# Altium integrated library Xilinx XC3000.IntLib: 584 symbols (part 2 of 27)
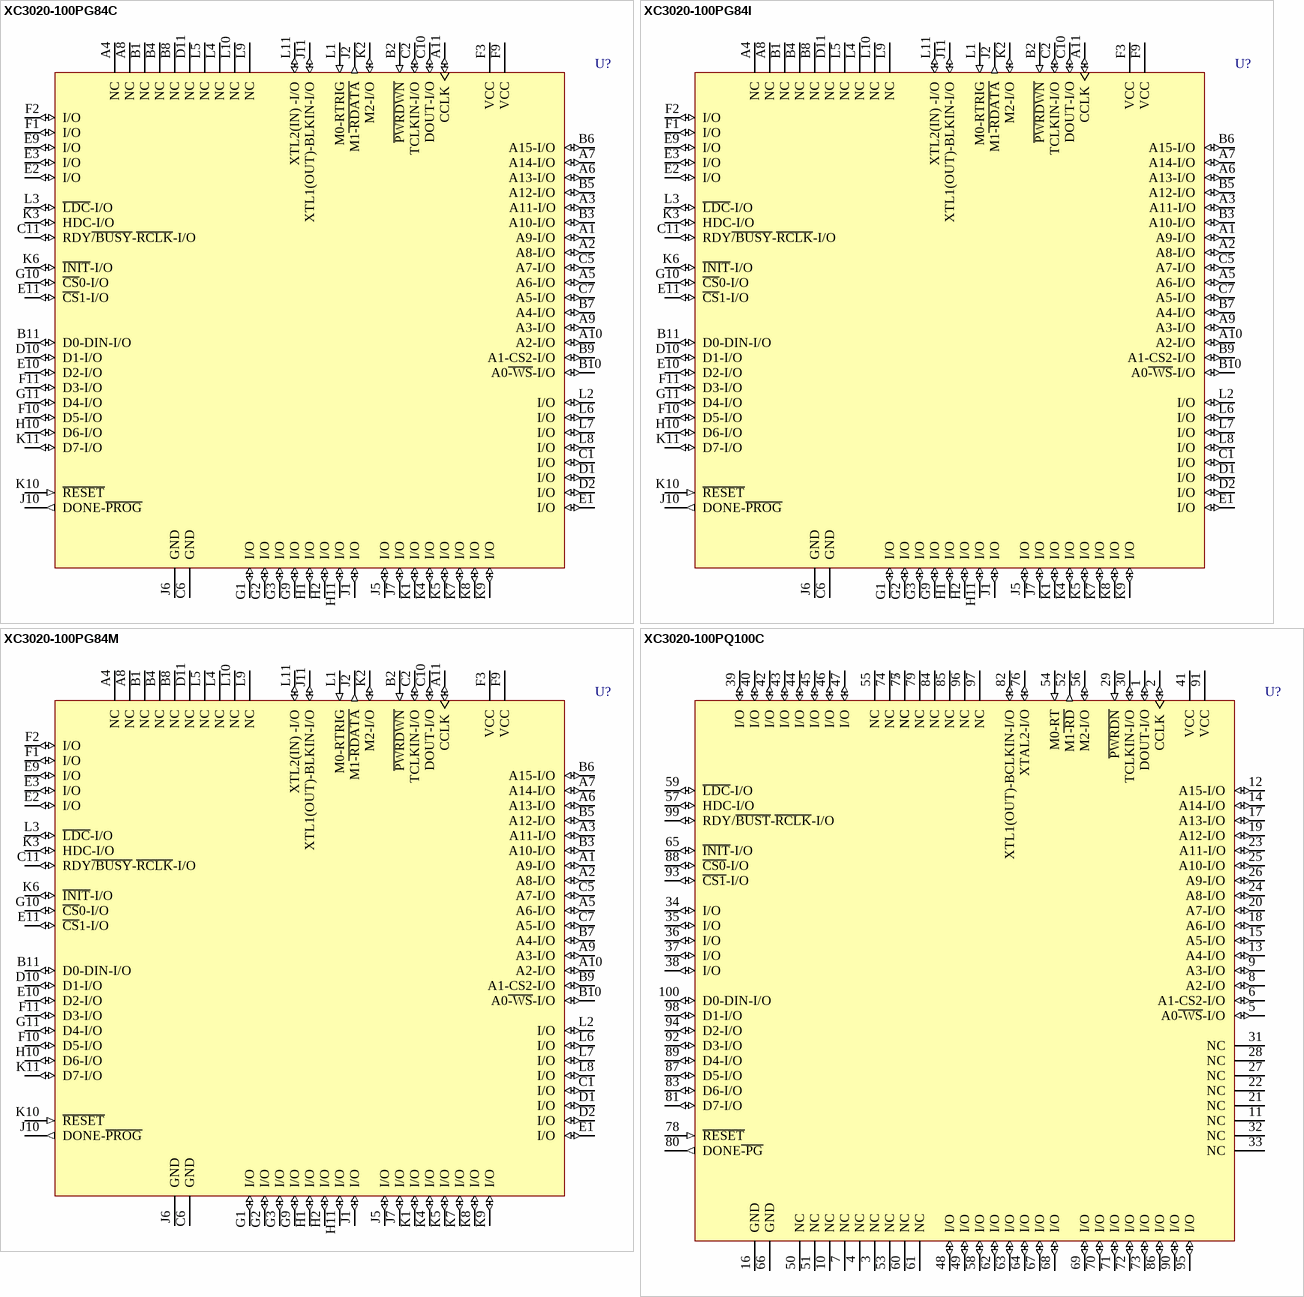
[diagram p318: symbols XC3020-100PG84C to XC3020-100PQ100C]

## XC3020-100PG84I
designator U?
Logic Cell Array with 64 CLBs, with 64 I/O Pins, 84-Pin PGA, Industrial Grade; PackageDocument: ver1.1, Apr-2001; Published: 8-Jun-2000; LatestRevisionDate: 17-Jul-2002; LatestRevisionNote: Re-released for DXP Platform.; DatasheetDocument: 1994; PackageReference: PG84; Publisher: Altium Limited; Code_JEDEC: MO-066-AC
footprint PG84 (84-Pin Ceramic Pin-Grid Array (PG84))
pins: A1 A9-I/O (io), A2 A8-I/O (io), A3 A11-I/O (io), A4 NC, A5 A6-I/O (io), A6 A13-I/O (io), A7 A14-I/O (io), A8 NC, A9 A3-I/O (io), A10 A2-I/O (io), A11 CCLK (io), B1 NC, B2 ~{PWRDWN} (in), B3 A10-I/O (io), B4 NC, B5 A12-I/O (io), B6 A15-I/O (io), B7 A4-I/O (io), B8 NC, B9 A1-CS2-I/O (io), B10 A0~{-WS}-I/O (io), B11 D0-DIN-I/O (io), C1 I/O (io), C2 TCLKIN-I/O (io), C5 A7-I/O (io), C6 GND (power), C7 A5-I/O (io), C10 DOUT-I/O (io), C11 RDY~{/BUSY}-~{RCLK}-I/O (io), D1 I/O (io), D2 I/O (io), D10 D1-I/O (io), D11 NC, E1 I/O (io), E2 I/O (io), E3 I/O (io), E9 I/O (io), E10 D2-I/O (io), E11 ~{CS}1-I/O (io), F1 I/O (io), F2 I/O (io), F3 VCC (power), F9 VCC (power), F10 D5-I/O (io), F11 D3-I/O (io), G1 I/O (io), G2 I/O (io), G3 I/O (io), G9 I/O (io), G10 ~{CS}0-I/O (io), G11 D4-I/O (io), H1 I/O (io), H2 I/O (io), H10 D6-I/O (io), H11 I/O (io), J1 I/O (io), J2 M1~{-RDATA} (out), J5 I/O (io), J6 GND (power), J7 I/O (io), J10 DONE-~{PROG} (out), J11 XTL1(OUT)-BLKIN-I/O (io), K1 I/O (io), K2 M2-I/O (io), K3 HDC-I/O (io), K4 I/O (io), K5 I/O (io), K6 ~{INIT}-I/O (io), K7 I/O (io), K8 I/O (io), K9 I/O (io), K10 ~{RESET} (in), K11 D7-I/O (io), L1 M0-RTRIG (in), L2 I/O (io), L3 ~{LDC}-I/O (io), L4 NC, L5 NC, L6 I/O (io), L7 I/O (io), L8 I/O (io), L9 NC, L10 NC, L11 XTL2(IN) -I/O (io)

## XC3020-100PG84M
designator U?
Logic Cell Array with 64 CLBs, with 64 I/O Pins, 84-Pin PGA, Military Grade; PackageDocument: ver1.1, Apr-2001; Published: 8-Jun-2000; LatestRevisionDate: 17-Jul-2002; LatestRevisionNote: Re-released for DXP Platform.; DatasheetDocument: 1994; PackageReference: PG84; Publisher: Altium Limited; Code_JEDEC: MO-066-AC
footprint PG84 (84-Pin Ceramic Pin-Grid Array (PG84))
pins: A1 A9-I/O (io), A2 A8-I/O (io), A3 A11-I/O (io), A4 NC, A5 A6-I/O (io), A6 A13-I/O (io), A7 A14-I/O (io), A8 NC, A9 A3-I/O (io), A10 A2-I/O (io), A11 CCLK (io), B1 NC, B2 ~{PWRDWN} (in), B3 A10-I/O (io), B4 NC, B5 A12-I/O (io), B6 A15-I/O (io), B7 A4-I/O (io), B8 NC, B9 A1-CS2-I/O (io), B10 A0~{-WS}-I/O (io), B11 D0-DIN-I/O (io), C1 I/O (io), C2 TCLKIN-I/O (io), C5 A7-I/O (io), C6 GND (power), C7 A5-I/O (io), C10 DOUT-I/O (io), C11 RDY~{/BUSY}-~{RCLK}-I/O (io), D1 I/O (io), D2 I/O (io), D10 D1-I/O (io), D11 NC, E1 I/O (io), E2 I/O (io), E3 I/O (io), E9 I/O (io), E10 D2-I/O (io), E11 ~{CS}1-I/O (io), F1 I/O (io), F2 I/O (io), F3 VCC (power), F9 VCC (power), F10 D5-I/O (io), F11 D3-I/O (io), G1 I/O (io), G2 I/O (io), G3 I/O (io), G9 I/O (io), G10 ~{CS}0-I/O (io), G11 D4-I/O (io), H1 I/O (io), H2 I/O (io), H10 D6-I/O (io), H11 I/O (io), J1 I/O (io), J2 M1~{-RDATA} (out), J5 I/O (io), J6 GND (power), J7 I/O (io), J10 DONE-~{PROG} (out), J11 XTL1(OUT)-BLKIN-I/O (io), K1 I/O (io), K2 M2-I/O (io), K3 HDC-I/O (io), K4 I/O (io), K5 I/O (io), K6 ~{INIT}-I/O (io), K7 I/O (io), K8 I/O (io), K9 I/O (io), K10 ~{RESET} (in), K11 D7-I/O (io), L1 M0-RTRIG (in), L2 I/O (io), L3 ~{LDC}-I/O (io), L4 NC, L5 NC, L6 I/O (io), L7 I/O (io), L8 I/O (io), L9 NC, L10 NC, L11 XTL2(IN) -I/O (io)

## XC3020-100PQ100C
designator U?
Logic Cell Array with 64 CLBs, with 64 I/O Pins, 100-Pin PQFP, Commercial Grade; PackageDocument: ver1.2, Oct-2002; Published: 8-Jun-2000; LatestRevisionDate: 17-Sep-2003; LatestRevisionNote: PCB Footprint dimensions updated; DatasheetDocument: 1994; PackageReference: PQ100; Publisher: Altium Limited; Code_IPC: QFP-14X20-100
footprint PQ100 (100-Pin Plastic Quad Flat Pack (PQ100))
pins: 1 DOUT-I/O (io), 2 CCLK (io), 3 NC, 4 NC, 5 A0~{-WS}-I/O (io), 6 A1-CS2-I/O (io), 7 NC, 8 A2-I/O (io), 9 A3-I/O (io), 10 NC, 11 NC, 12 A15-I/O (io), 13 A4-I/O (io), 14 A14-I/O (io), 15 A5-I/O (io), 16 GND (power), 17 A13-I/O (io), 18 A6-I/O (io), 19 A12-I/O (io), 20 A7-I/O (io), 21 NC, 22 NC, 23 A11-I/O (io), 24 A8-I/O (io), 25 A10-I/O (io), 26 A9-I/O (io), 27 NC, 28 NC, 29 ~{PWRDN} (in), 30 TCLKIN-I/O (io), 31 NC, 32 NC, 33 NC, 34 I/O (io), 35 I/O (io), 36 I/O (io), 37 I/O (io), 38 I/O (io), 39 I/O (io), 40 I/O (io), 41 VCC (power), 42 I/O (io), 43 I/O (io), 44 I/O (io), 45 I/O (io), 46 I/O (io), 47 I/O (io), 48 I/O (io), 49 I/O (io), 50 NC, 51 NC, 52 M1~{-RD} (out), 53 NC, 54 M0-RT (in), 55 NC, 56 M2-I/O (io), 57 HDC-I/O (io), 58 I/O (io), 59 ~{LDC}-I/O (io), 60 NC, 61 NC, 62 I/O (io), 63 I/O (io), 64 I/O (io), 65 ~{INIT}-I/O (io), 66 GND (power), 67 I/O (io), 68 I/O (io), 69 I/O (io), 70 I/O (io), 71 I/O (io), 72 I/O (io), 73 I/O (io), 74 NC, 75 NC, 76 XTAL2-I/O (io), 77 NC, 78 ~{RESET} (in), 79 NC, 80 DONE~{-PG} (out), 81 D7-I/O (io), 82 XTL1(OUT)-BCLKIN-I/O (io), 83 D6-I/O (io), 84 NC, 85 NC, 86 I/O (io), 87 D5-I/O (io), 88 ~{CS0}-I/O (io), 89 D4-I/O (io), 90 I/O (io), 91 VCC (power), 92 D3-I/O (io), 93 ~{CS1}-I/O (io), 94 D2-I/O (io), 95 I/O (io), 96 NC, 97 NC, 98 D1-I/O (io), 99 RDY/~{BUST}-~{RCLK}-I/O (io), 100 D0-DIN-I/O (io)

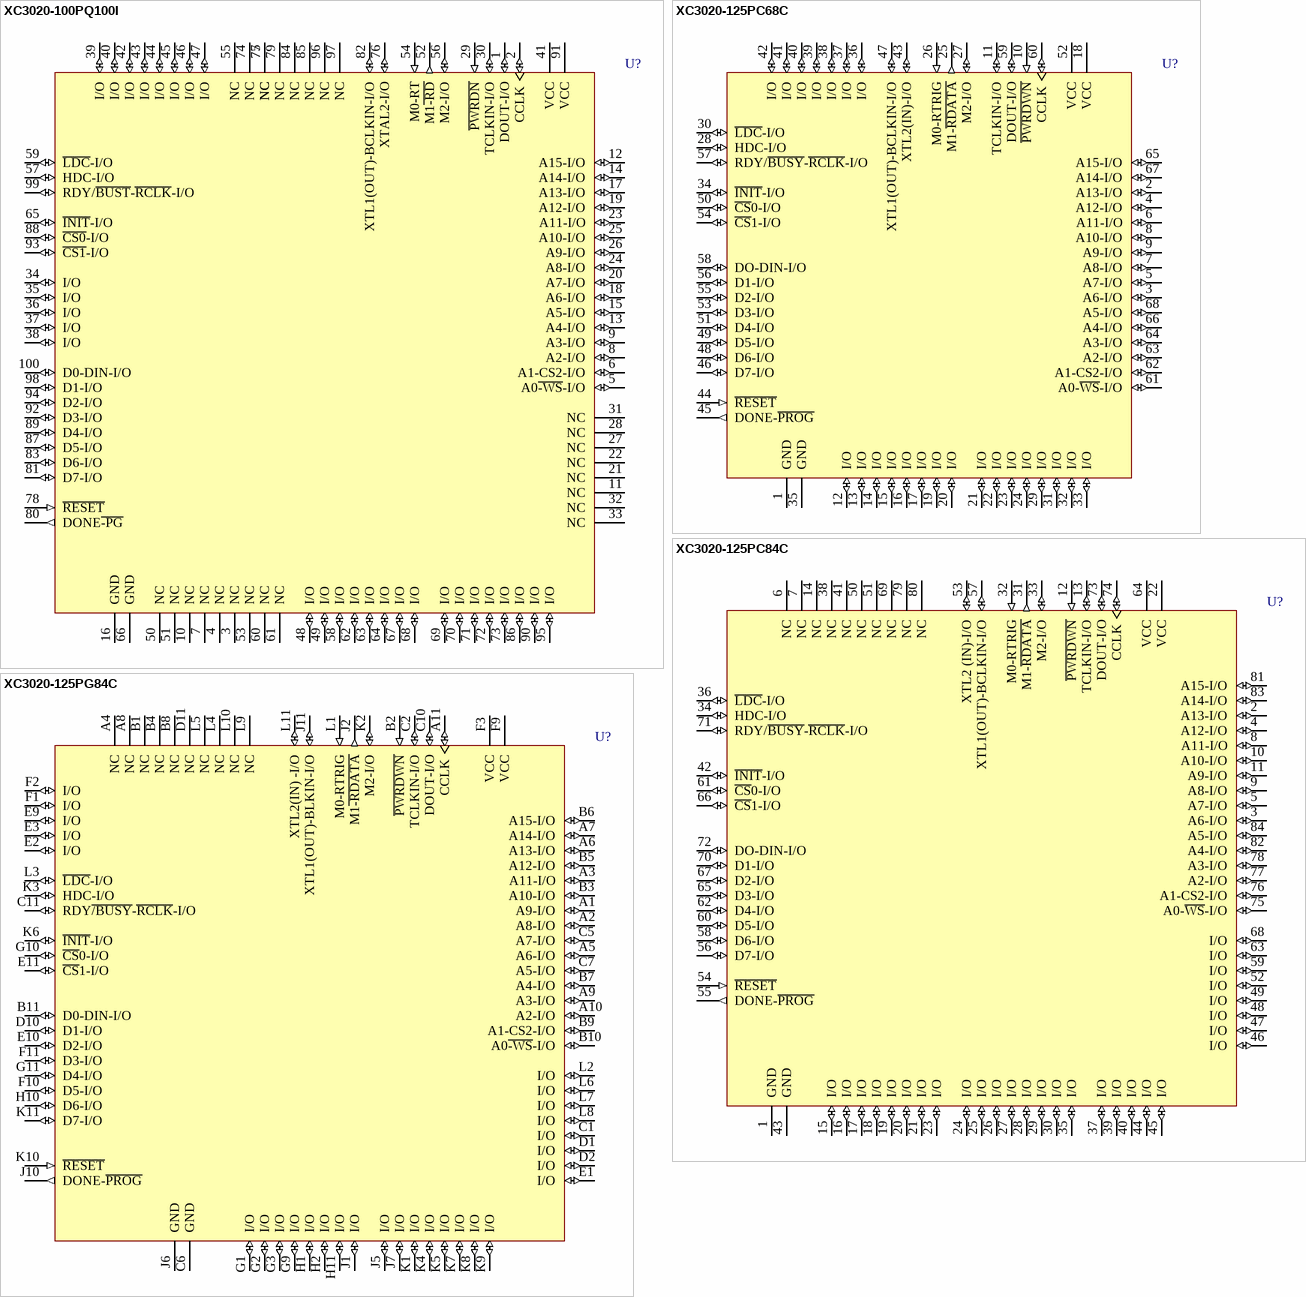
[diagram p8: symbols XC3020-100PQ100I to XC3020-125PG84C]

## XC3020-100PQ100I
designator U?
Logic Cell Array with 64 CLBs, with 64 I/O Pins, 100-Pin PQFP, Industrial Grade; PackageDocument: ver1.2, Oct-2002; Published: 8-Jun-2000; LatestRevisionDate: 17-Sep-2003; LatestRevisionNote: PCB Footprint dimensions updated; DatasheetDocument: 1994; PackageReference: PQ100; Publisher: Altium Limited; Code_IPC: QFP-14X20-100
footprint PQ100 (100-Pin Plastic Quad Flat Pack (PQ100))
pins: 1 DOUT-I/O (io), 2 CCLK (io), 3 NC, 4 NC, 5 A0~{-WS}-I/O (io), 6 A1-CS2-I/O (io), 7 NC, 8 A2-I/O (io), 9 A3-I/O (io), 10 NC, 11 NC, 12 A15-I/O (io), 13 A4-I/O (io), 14 A14-I/O (io), 15 A5-I/O (io), 16 GND (power), 17 A13-I/O (io), 18 A6-I/O (io), 19 A12-I/O (io), 20 A7-I/O (io), 21 NC, 22 NC, 23 A11-I/O (io), 24 A8-I/O (io), 25 A10-I/O (io), 26 A9-I/O (io), 27 NC, 28 NC, 29 ~{PWRDN} (in), 30 TCLKIN-I/O (io), 31 NC, 32 NC, 33 NC, 34 I/O (io), 35 I/O (io), 36 I/O (io), 37 I/O (io), 38 I/O (io), 39 I/O (io), 40 I/O (io), 41 VCC (power), 42 I/O (io), 43 I/O (io), 44 I/O (io), 45 I/O (io), 46 I/O (io), 47 I/O (io), 48 I/O (io), 49 I/O (io), 50 NC, 51 NC, 52 M1~{-RD} (out), 53 NC, 54 M0-RT (in), 55 NC, 56 M2-I/O (io), 57 HDC-I/O (io), 58 I/O (io), 59 ~{LDC}-I/O (io), 60 NC, 61 NC, 62 I/O (io), 63 I/O (io), 64 I/O (io), 65 ~{INIT}-I/O (io), 66 GND (power), 67 I/O (io), 68 I/O (io), 69 I/O (io), 70 I/O (io), 71 I/O (io), 72 I/O (io), 73 I/O (io), 74 NC, 75 NC, 76 XTAL2-I/O (io), 77 NC, 78 ~{RESET} (in), 79 NC, 80 DONE~{-PG} (out), 81 D7-I/O (io), 82 XTL1(OUT)-BCLKIN-I/O (io), 83 D6-I/O (io), 84 NC, 85 NC, 86 I/O (io), 87 D5-I/O (io), 88 ~{CS0}-I/O (io), 89 D4-I/O (io), 90 I/O (io), 91 VCC (power), 92 D3-I/O (io), 93 ~{CS1}-I/O (io), 94 D2-I/O (io), 95 I/O (io), 96 NC, 97 NC, 98 D1-I/O (io), 99 RDY/~{BUST}-~{RCLK}-I/O (io), 100 D0-DIN-I/O (io)

## XC3020-125PC68C
designator U?
Logic Cell Array with 64 CLBs, with 58 I/O Pins, 68-Pin PLCC, Commercial Grade; PackageDocument: ver1.0, Jun-2000; Published: 8-Jun-2000; LatestRevisionDate: 17-Sep-2003; LatestRevisionNote: PCB Footprint dimensions updated; DatasheetDocument: 1994; PackageReference: PC68; Publisher: Altium Limited; Code_JEDEC: MO-047; Code_IPC: PLCC-68
footprint PC68 (68-Pin Plastic Leaded Chip Carrier (PC68))
pins: 1 GND (power), 2 A13-I/O (io), 3 A6-I/O (io), 4 A12-I/O (io), 5 A7-I/O (io), 6 A11-I/O (io), 7 A8-I/O (io), 8 A10-I/O (io), 9 A9-I/O (io), 10 ~{PWRDWN} (in), 11 TCLKIN-I/O (io), 12 I/O (io), 13 I/O (io), 14 I/O (io), 15 I/O (io), 16 I/O (io), 17 I/O (io), 18 VCC (power), 19 I/O (io), 20 I/O (io), 21 I/O (io), 22 I/O (io), 23 I/O (io), 24 I/O (io), 25 M1-~{RDATA} (out), 26 M0-RTRIG (in), 27 M2-I/O (io), 28 HDC-I/O (io), 29 I/O (io), 30 ~{LDC}-I/O (io), 31 I/O (io), 32 I/O (io), 33 I/O (io), 34 ~{INIT}-I/O (io), 35 GND (power), 36 I/O (io), 37 I/O (io), 38 I/O (io), 39 I/O (io), 40 I/O (io), 41 I/O (io), 42 I/O (io), 43 XTL2(IN)-I/O (io), 44 ~{RESET} (in), 45 DONE-~{PROG} (out), 46 D7-I/O (io), 47 XTL1(OUT)-BCLKIN-I/O (io), 48 D6-I/O (io), 49 D5-I/O (io), 50 ~{CS}0-I/O (io), 51 D4-I/O (io), 52 VCC (power), 53 D3-I/O (io), 54 ~{CS}1-I/O (io), 55 D2-I/O (io), 56 D1-I/O (io), 57 RDY/~{BUSY}-~{RCLK}-I/O (io), 58 DO-DIN-I/O (io), 59 DOUT-I/O (io), 60 CCLK (io), 61 A0-~{WS}-I/O (io), 62 A1-CS2-I/O (io), 63 A2-I/O (io), 64 A3-I/O (io), 65 A15-I/O (io), 66 A4-I/O (io), 67 A14-I/O (io), 68 A5-I/O (io)

## XC3020-125PC84C
designator U?
Logic Cell Array with 64 CLBs, with 64 I/O Pins, 84-Pin PLCC, Commercial Grade; PackageDocument: ver1.0, Jun-2000; Published: 8-Jun-2000; LatestRevisionDate: 17-Sep-2003; LatestRevisionNote: PCB Footprint dimensions updated; DatasheetDocument: 1994; PackageReference: PC84; Publisher: Altium Limited; Code_JEDEC: MS-047; Code_IPC: PLCC-84
footprint PC84 (84-Pin Plastic Leaded Chip Carrier (PC84))
pins: 1 GND (power), 2 A13-I/O (io), 3 A6-I/O (io), 4 A12-I/O (io), 5 A7-I/O (io), 6 NC, 7 NC, 8 A11-I/O (io), 9 A8-I/O (io), 10 A10-I/O (io), 11 A9-I/O (io), 12 ~{PWRDWN} (in), 13 TCLKIN-I/O (io), 14 NC, 15 I/O (io), 16 I/O (io), 17 I/O (io), 18 I/O (io), 19 I/O (io), 20 I/O (io), 21 I/O (io), 22 VCC (power), 23 I/O (io), 24 I/O (io), 25 I/O (io), 26 I/O (io), 27 I/O (io), 28 I/O (io), 29 I/O (io), 30 I/O (io), 31 M1-~{RDATA} (out), 32 M0-RTRIG (in), 33 M2-I/O (io), 34 HDC-I/O (io), 35 I/O (io), 36 ~{LDC}-I/O (io), 37 I/O (io), 38 NC, 39 I/O (io), 40 I/O (io), 41 NC, 42 ~{INIT}-I/O (io), 43 GND (power), 44 I/O (io), 45 I/O (io), 46 I/O (io), 47 I/O (io), 48 I/O (io), 49 I/O (io), 50 NC, 51 NC, 52 I/O (io), 53 XTL2 (IN)-I/O (io), 54 ~{RESET} (in), 55 DONE-~{PROG} (out), 56 D7-I/O (io), 57 XTL1(OUT)-BCLKIN-I/O (io), 58 D6-I/O (io), 59 I/O (io), 60 D5-I/O (io), 61 ~{CS}0-I/O (io), 62 D4-I/O (io), 63 I/O (io), 64 VCC (power), 65 D3-I/O (io), 66 ~{CS}1-I/O (io), 67 D2-I/O (io), 68 I/O (io), 69 NC, 70 D1-I/O (io), 71 RDY/~{BUSY}-~{RCLK}-I/O (io), 72 DO-DIN-I/O (io), 73 DOUT-I/O (io), 74 CCLK (io), 75 A0-~{WS}-I/O (io), 76 A1-CS2-I/O (io), 77 A2-I/O (io), 78 A3-I/O (io), 79 NC, 80 NC, 81 A15-I/O (io), 82 A4-I/O (io), 83 A14-I/O (io), 84 A5-I/O (io)

## XC3020-125PG84C
designator U?
Logic Cell Array with 64 CLBs, with 64 I/O Pins, 84-Pin PGA, Commercial Grade; PackageDocument: ver1.1, Apr-2001; Published: 8-Jun-2000; LatestRevisionDate: 17-Jul-2002; LatestRevisionNote: Re-released for DXP Platform.; DatasheetDocument: 1994; PackageReference: PG84; Publisher: Altium Limited; Code_JEDEC: MO-066-AC
footprint PG84 (84-Pin Ceramic Pin-Grid Array (PG84))
pins: A1 A9-I/O (io), A2 A8-I/O (io), A3 A11-I/O (io), A4 NC, A5 A6-I/O (io), A6 A13-I/O (io), A7 A14-I/O (io), A8 NC, A9 A3-I/O (io), A10 A2-I/O (io), A11 CCLK (io), B1 NC, B2 ~{PWRDWN} (in), B3 A10-I/O (io), B4 NC, B5 A12-I/O (io), B6 A15-I/O (io), B7 A4-I/O (io), B8 NC, B9 A1-CS2-I/O (io), B10 A0~{-WS}-I/O (io), B11 D0-DIN-I/O (io), C1 I/O (io), C2 TCLKIN-I/O (io), C5 A7-I/O (io), C6 GND (power), C7 A5-I/O (io), C10 DOUT-I/O (io), C11 RDY~{/BUSY}-~{RCLK}-I/O (io), D1 I/O (io), D2 I/O (io), D10 D1-I/O (io), D11 NC, E1 I/O (io), E2 I/O (io), E3 I/O (io), E9 I/O (io), E10 D2-I/O (io), E11 ~{CS}1-I/O (io), F1 I/O (io), F2 I/O (io), F3 VCC (power), F9 VCC (power), F10 D5-I/O (io), F11 D3-I/O (io), G1 I/O (io), G2 I/O (io), G3 I/O (io), G9 I/O (io), G10 ~{CS}0-I/O (io), G11 D4-I/O (io), H1 I/O (io), H2 I/O (io), H10 D6-I/O (io), H11 I/O (io), J1 I/O (io), J2 M1~{-RDATA} (out), J5 I/O (io), J6 GND (power), J7 I/O (io), J10 DONE-~{PROG} (out), J11 XTL1(OUT)-BLKIN-I/O (io), K1 I/O (io), K2 M2-I/O (io), K3 HDC-I/O (io), K4 I/O (io), K5 I/O (io), K6 ~{INIT}-I/O (io), K7 I/O (io), K8 I/O (io), K9 I/O (io), K10 ~{RESET} (in), K11 D7-I/O (io), L1 M0-RTRIG (in), L2 I/O (io), L3 ~{LDC}-I/O (io), L4 NC, L5 NC, L6 I/O (io), L7 I/O (io), L8 I/O (io), L9 NC, L10 NC, L11 XTL2(IN) -I/O (io)

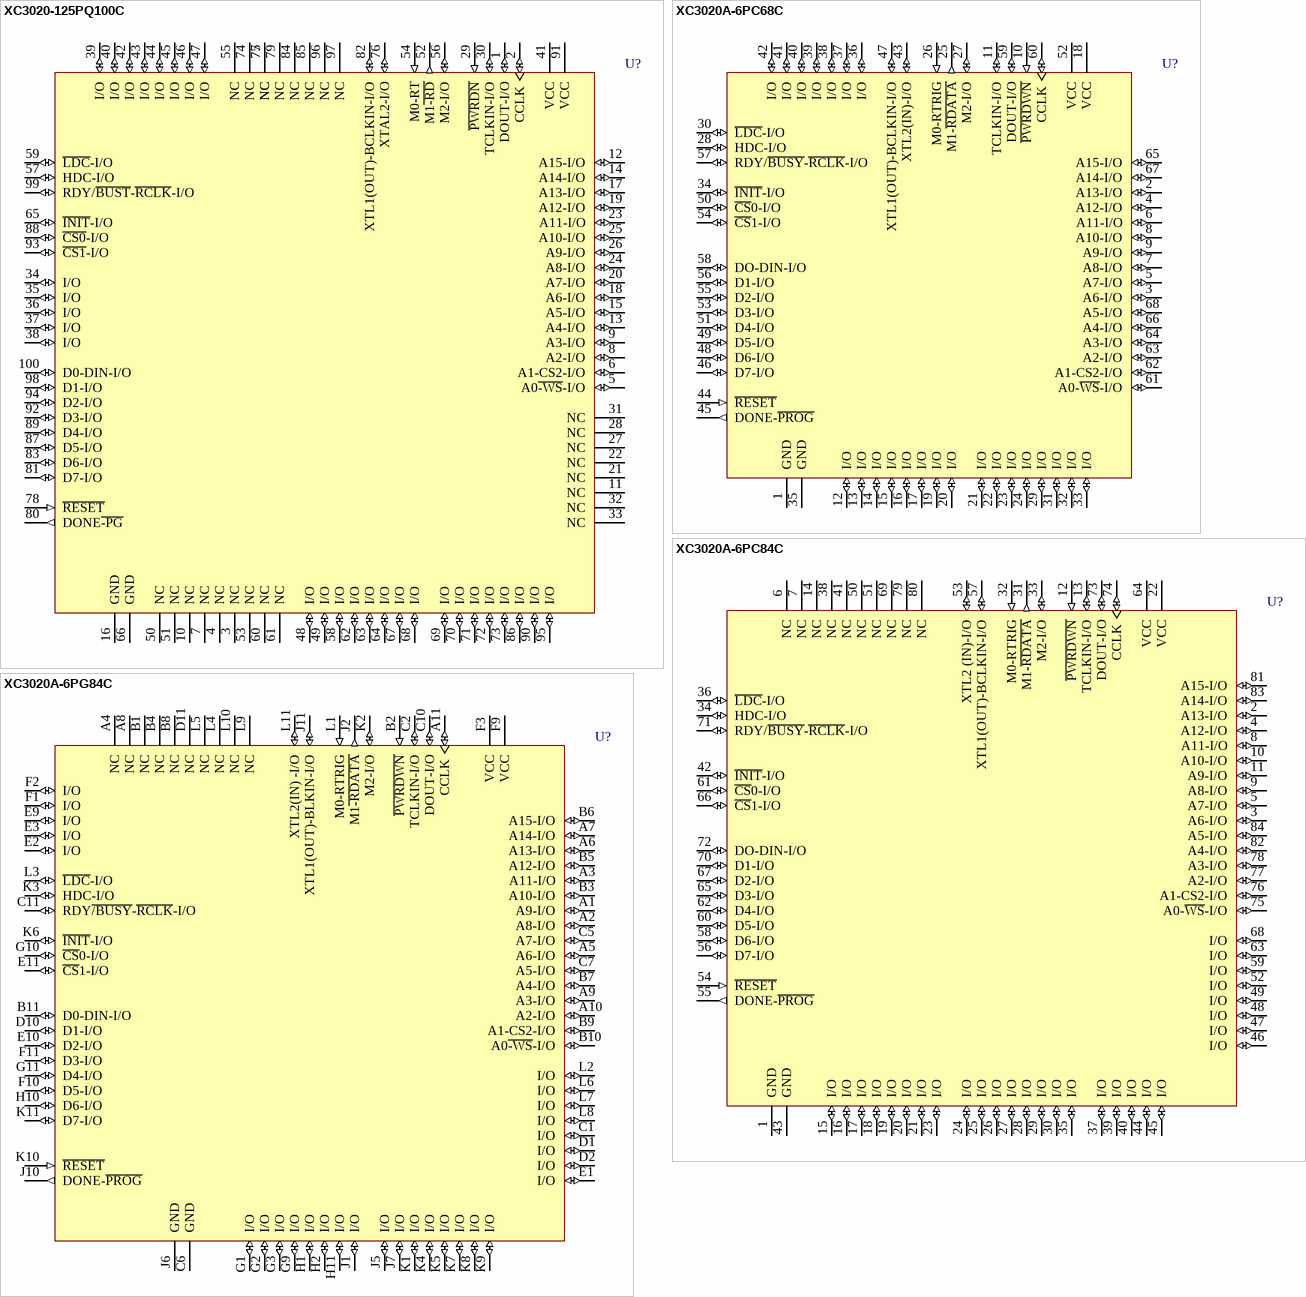
[diagram p9: symbols XC3020-125PQ100C to XC3020A-6PG84C]

## XC3020-125PQ100C
designator U?
Logic Cell Array with 64 CLBs, with 64 I/O Pins, 100-Pin PQFP, Commercial Grade; PackageDocument: ver1.2, Oct-2002; Published: 8-Jun-2000; LatestRevisionDate: 17-Sep-2003; LatestRevisionNote: PCB Footprint dimensions updated; DatasheetDocument: 1994; PackageReference: PQ100; Publisher: Altium Limited; Code_IPC: QFP-14X20-100
footprint PQ100 (100-Pin Plastic Quad Flat Pack (PQ100))
pins: 1 DOUT-I/O (io), 2 CCLK (io), 3 NC, 4 NC, 5 A0~{-WS}-I/O (io), 6 A1-CS2-I/O (io), 7 NC, 8 A2-I/O (io), 9 A3-I/O (io), 10 NC, 11 NC, 12 A15-I/O (io), 13 A4-I/O (io), 14 A14-I/O (io), 15 A5-I/O (io), 16 GND (power), 17 A13-I/O (io), 18 A6-I/O (io), 19 A12-I/O (io), 20 A7-I/O (io), 21 NC, 22 NC, 23 A11-I/O (io), 24 A8-I/O (io), 25 A10-I/O (io), 26 A9-I/O (io), 27 NC, 28 NC, 29 ~{PWRDN} (in), 30 TCLKIN-I/O (io), 31 NC, 32 NC, 33 NC, 34 I/O (io), 35 I/O (io), 36 I/O (io), 37 I/O (io), 38 I/O (io), 39 I/O (io), 40 I/O (io), 41 VCC (power), 42 I/O (io), 43 I/O (io), 44 I/O (io), 45 I/O (io), 46 I/O (io), 47 I/O (io), 48 I/O (io), 49 I/O (io), 50 NC, 51 NC, 52 M1~{-RD} (out), 53 NC, 54 M0-RT (in), 55 NC, 56 M2-I/O (io), 57 HDC-I/O (io), 58 I/O (io), 59 ~{LDC}-I/O (io), 60 NC, 61 NC, 62 I/O (io), 63 I/O (io), 64 I/O (io), 65 ~{INIT}-I/O (io), 66 GND (power), 67 I/O (io), 68 I/O (io), 69 I/O (io), 70 I/O (io), 71 I/O (io), 72 I/O (io), 73 I/O (io), 74 NC, 75 NC, 76 XTAL2-I/O (io), 77 NC, 78 ~{RESET} (in), 79 NC, 80 DONE~{-PG} (out), 81 D7-I/O (io), 82 XTL1(OUT)-BCLKIN-I/O (io), 83 D6-I/O (io), 84 NC, 85 NC, 86 I/O (io), 87 D5-I/O (io), 88 ~{CS0}-I/O (io), 89 D4-I/O (io), 90 I/O (io), 91 VCC (power), 92 D3-I/O (io), 93 ~{CS1}-I/O (io), 94 D2-I/O (io), 95 I/O (io), 96 NC, 97 NC, 98 D1-I/O (io), 99 RDY/~{BUST}-~{RCLK}-I/O (io), 100 D0-DIN-I/O (io)

## XC3020A-6PC68C
designator U?
Logic Cell Array with 64 CLBs, with 58 I/O Pins, 68-Pin PLCC, Commercial Grade; PackageDocument: ver1.0, Jun-2000; Published: 8-Jun-2000; LatestRevisionDate: 17-Sep-2003; LatestRevisionNote: PCB Footprint dimensions updated; DatasheetDocument: 1994; PackageReference: PC68; Publisher: Altium Limited; Code_JEDEC: MO-047; Code_IPC: PLCC-68
footprint PC68 (68-Pin Plastic Leaded Chip Carrier (PC68))
pins: 1 GND (power), 2 A13-I/O (io), 3 A6-I/O (io), 4 A12-I/O (io), 5 A7-I/O (io), 6 A11-I/O (io), 7 A8-I/O (io), 8 A10-I/O (io), 9 A9-I/O (io), 10 ~{PWRDWN} (in), 11 TCLKIN-I/O (io), 12 I/O (io), 13 I/O (io), 14 I/O (io), 15 I/O (io), 16 I/O (io), 17 I/O (io), 18 VCC (power), 19 I/O (io), 20 I/O (io), 21 I/O (io), 22 I/O (io), 23 I/O (io), 24 I/O (io), 25 M1-~{RDATA} (out), 26 M0-RTRIG (in), 27 M2-I/O (io), 28 HDC-I/O (io), 29 I/O (io), 30 ~{LDC}-I/O (io), 31 I/O (io), 32 I/O (io), 33 I/O (io), 34 ~{INIT}-I/O (io), 35 GND (power), 36 I/O (io), 37 I/O (io), 38 I/O (io), 39 I/O (io), 40 I/O (io), 41 I/O (io), 42 I/O (io), 43 XTL2(IN)-I/O (io), 44 ~{RESET} (in), 45 DONE-~{PROG} (out), 46 D7-I/O (io), 47 XTL1(OUT)-BCLKIN-I/O (io), 48 D6-I/O (io), 49 D5-I/O (io), 50 ~{CS}0-I/O (io), 51 D4-I/O (io), 52 VCC (power), 53 D3-I/O (io), 54 ~{CS}1-I/O (io), 55 D2-I/O (io), 56 D1-I/O (io), 57 RDY/~{BUSY}-~{RCLK}-I/O (io), 58 DO-DIN-I/O (io), 59 DOUT-I/O (io), 60 CCLK (io), 61 A0-~{WS}-I/O (io), 62 A1-CS2-I/O (io), 63 A2-I/O (io), 64 A3-I/O (io), 65 A15-I/O (io), 66 A4-I/O (io), 67 A14-I/O (io), 68 A5-I/O (io)

## XC3020A-6PC84C
designator U?
Logic Cell Array with 64 CLBs, with 64 I/O Pins, 84-Pin PLCC, Commercial Grade; PackageDocument: ver1.0, Jun-2000; Published: 8-Jun-2000; LatestRevisionDate: 17-Sep-2003; LatestRevisionNote: PCB Footprint dimensions updated; DatasheetDocument: 1994; PackageReference: PC84; Publisher: Altium Limited; Code_JEDEC: MS-047; Code_IPC: PLCC-84
footprint PC84 (84-Pin Plastic Leaded Chip Carrier (PC84))
pins: 1 GND (power), 2 A13-I/O (io), 3 A6-I/O (io), 4 A12-I/O (io), 5 A7-I/O (io), 6 NC, 7 NC, 8 A11-I/O (io), 9 A8-I/O (io), 10 A10-I/O (io), 11 A9-I/O (io), 12 ~{PWRDWN} (in), 13 TCLKIN-I/O (io), 14 NC, 15 I/O (io), 16 I/O (io), 17 I/O (io), 18 I/O (io), 19 I/O (io), 20 I/O (io), 21 I/O (io), 22 VCC (power), 23 I/O (io), 24 I/O (io), 25 I/O (io), 26 I/O (io), 27 I/O (io), 28 I/O (io), 29 I/O (io), 30 I/O (io), 31 M1-~{RDATA} (out), 32 M0-RTRIG (in), 33 M2-I/O (io), 34 HDC-I/O (io), 35 I/O (io), 36 ~{LDC}-I/O (io), 37 I/O (io), 38 NC, 39 I/O (io), 40 I/O (io), 41 NC, 42 ~{INIT}-I/O (io), 43 GND (power), 44 I/O (io), 45 I/O (io), 46 I/O (io), 47 I/O (io), 48 I/O (io), 49 I/O (io), 50 NC, 51 NC, 52 I/O (io), 53 XTL2 (IN)-I/O (io), 54 ~{RESET} (in), 55 DONE-~{PROG} (out), 56 D7-I/O (io), 57 XTL1(OUT)-BCLKIN-I/O (io), 58 D6-I/O (io), 59 I/O (io), 60 D5-I/O (io), 61 ~{CS}0-I/O (io), 62 D4-I/O (io), 63 I/O (io), 64 VCC (power), 65 D3-I/O (io), 66 ~{CS}1-I/O (io), 67 D2-I/O (io), 68 I/O (io), 69 NC, 70 D1-I/O (io), 71 RDY/~{BUSY}-~{RCLK}-I/O (io), 72 DO-DIN-I/O (io), 73 DOUT-I/O (io), 74 CCLK (io), 75 A0-~{WS}-I/O (io), 76 A1-CS2-I/O (io), 77 A2-I/O (io), 78 A3-I/O (io), 79 NC, 80 NC, 81 A15-I/O (io), 82 A4-I/O (io), 83 A14-I/O (io), 84 A5-I/O (io)

## XC3020A-6PG84C
designator U?
Logic Cell Array with 64 CLBs, with 64 I/O Pins, 84-Pin PGA, Commercial Grade; PackageDocument: ver1.1, Apr-2001; Published: 8-Jun-2000; LatestRevisionDate: 17-Jul-2002; LatestRevisionNote: Re-released for DXP Platform.; DatasheetDocument: 1994; PackageReference: PG84; Publisher: Altium Limited; Code_JEDEC: MO-066-AC
footprint PG84 (84-Pin Ceramic Pin-Grid Array (PG84))
pins: A1 A9-I/O (io), A2 A8-I/O (io), A3 A11-I/O (io), A4 NC, A5 A6-I/O (io), A6 A13-I/O (io), A7 A14-I/O (io), A8 NC, A9 A3-I/O (io), A10 A2-I/O (io), A11 CCLK (io), B1 NC, B2 ~{PWRDWN} (in), B3 A10-I/O (io), B4 NC, B5 A12-I/O (io), B6 A15-I/O (io), B7 A4-I/O (io), B8 NC, B9 A1-CS2-I/O (io), B10 A0~{-WS}-I/O (io), B11 D0-DIN-I/O (io), C1 I/O (io), C2 TCLKIN-I/O (io), C5 A7-I/O (io), C6 GND (power), C7 A5-I/O (io), C10 DOUT-I/O (io), C11 RDY~{/BUSY}-~{RCLK}-I/O (io), D1 I/O (io), D2 I/O (io), D10 D1-I/O (io), D11 NC, E1 I/O (io), E2 I/O (io), E3 I/O (io), E9 I/O (io), E10 D2-I/O (io), E11 ~{CS}1-I/O (io), F1 I/O (io), F2 I/O (io), F3 VCC (power), F9 VCC (power), F10 D5-I/O (io), F11 D3-I/O (io), G1 I/O (io), G2 I/O (io), G3 I/O (io), G9 I/O (io), G10 ~{CS}0-I/O (io), G11 D4-I/O (io), H1 I/O (io), H2 I/O (io), H10 D6-I/O (io), H11 I/O (io), J1 I/O (io), J2 M1~{-RDATA} (out), J5 I/O (io), J6 GND (power), J7 I/O (io), J10 DONE-~{PROG} (out), J11 XTL1(OUT)-BLKIN-I/O (io), K1 I/O (io), K2 M2-I/O (io), K3 HDC-I/O (io), K4 I/O (io), K5 I/O (io), K6 ~{INIT}-I/O (io), K7 I/O (io), K8 I/O (io), K9 I/O (io), K10 ~{RESET} (in), K11 D7-I/O (io), L1 M0-RTRIG (in), L2 I/O (io), L3 ~{LDC}-I/O (io), L4 NC, L5 NC, L6 I/O (io), L7 I/O (io), L8 I/O (io), L9 NC, L10 NC, L11 XTL2(IN) -I/O (io)

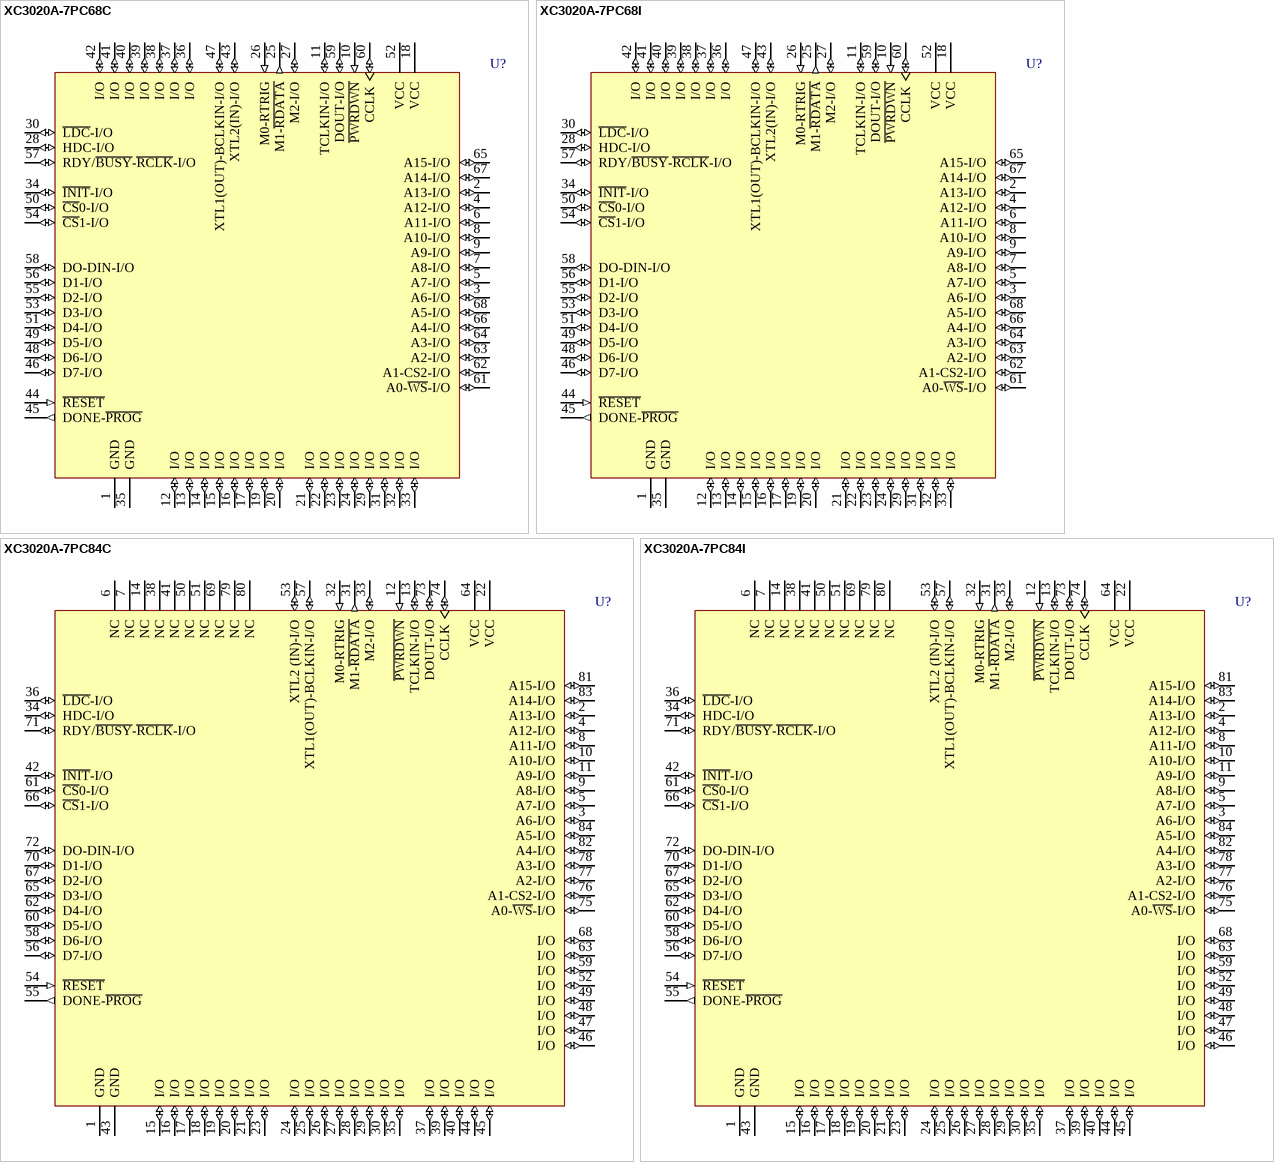
[diagram p10: symbols XC3020A-7PC68C to XC3020A-7PC84I]

## XC3020A-7PC68C
designator U?
Logic Cell Array with 64 CLBs, with 58 I/O Pins, 68-Pin PLCC, Commercial Grade; PackageDocument: ver1.0, Jun-2000; Published: 8-Jun-2000; LatestRevisionDate: 17-Sep-2003; LatestRevisionNote: PCB Footprint dimensions updated; DatasheetDocument: 1994; PackageReference: PC68; Publisher: Altium Limited; Code_JEDEC: MO-047; Code_IPC: PLCC-68
footprint PC68 (68-Pin Plastic Leaded Chip Carrier (PC68))
pins: 1 GND (power), 2 A13-I/O (io), 3 A6-I/O (io), 4 A12-I/O (io), 5 A7-I/O (io), 6 A11-I/O (io), 7 A8-I/O (io), 8 A10-I/O (io), 9 A9-I/O (io), 10 ~{PWRDWN} (in), 11 TCLKIN-I/O (io), 12 I/O (io), 13 I/O (io), 14 I/O (io), 15 I/O (io), 16 I/O (io), 17 I/O (io), 18 VCC (power), 19 I/O (io), 20 I/O (io), 21 I/O (io), 22 I/O (io), 23 I/O (io), 24 I/O (io), 25 M1-~{RDATA} (out), 26 M0-RTRIG (in), 27 M2-I/O (io), 28 HDC-I/O (io), 29 I/O (io), 30 ~{LDC}-I/O (io), 31 I/O (io), 32 I/O (io), 33 I/O (io), 34 ~{INIT}-I/O (io), 35 GND (power), 36 I/O (io), 37 I/O (io), 38 I/O (io), 39 I/O (io), 40 I/O (io), 41 I/O (io), 42 I/O (io), 43 XTL2(IN)-I/O (io), 44 ~{RESET} (in), 45 DONE-~{PROG} (out), 46 D7-I/O (io), 47 XTL1(OUT)-BCLKIN-I/O (io), 48 D6-I/O (io), 49 D5-I/O (io), 50 ~{CS}0-I/O (io), 51 D4-I/O (io), 52 VCC (power), 53 D3-I/O (io), 54 ~{CS}1-I/O (io), 55 D2-I/O (io), 56 D1-I/O (io), 57 RDY/~{BUSY}-~{RCLK}-I/O (io), 58 DO-DIN-I/O (io), 59 DOUT-I/O (io), 60 CCLK (io), 61 A0-~{WS}-I/O (io), 62 A1-CS2-I/O (io), 63 A2-I/O (io), 64 A3-I/O (io), 65 A15-I/O (io), 66 A4-I/O (io), 67 A14-I/O (io), 68 A5-I/O (io)

## XC3020A-7PC68I
designator U?
Logic Cell Array with 64 CLBs, with 58 I/O Pins, 68-Pin PLCC, Industrial Grade; PackageDocument: ver1.0, Jun-2000; Published: 8-Jun-2000; LatestRevisionDate: 17-Sep-2003; LatestRevisionNote: PCB Footprint dimensions updated; DatasheetDocument: 1994; PackageReference: PC68; Publisher: Altium Limited; Code_JEDEC: MO-047; Code_IPC: PLCC-68
footprint PC68 (68-Pin Plastic Leaded Chip Carrier (PC68))
pins: 1 GND (power), 2 A13-I/O (io), 3 A6-I/O (io), 4 A12-I/O (io), 5 A7-I/O (io), 6 A11-I/O (io), 7 A8-I/O (io), 8 A10-I/O (io), 9 A9-I/O (io), 10 ~{PWRDWN} (in), 11 TCLKIN-I/O (io), 12 I/O (io), 13 I/O (io), 14 I/O (io), 15 I/O (io), 16 I/O (io), 17 I/O (io), 18 VCC (power), 19 I/O (io), 20 I/O (io), 21 I/O (io), 22 I/O (io), 23 I/O (io), 24 I/O (io), 25 M1-~{RDATA} (out), 26 M0-RTRIG (in), 27 M2-I/O (io), 28 HDC-I/O (io), 29 I/O (io), 30 ~{LDC}-I/O (io), 31 I/O (io), 32 I/O (io), 33 I/O (io), 34 ~{INIT}-I/O (io), 35 GND (power), 36 I/O (io), 37 I/O (io), 38 I/O (io), 39 I/O (io), 40 I/O (io), 41 I/O (io), 42 I/O (io), 43 XTL2(IN)-I/O (io), 44 ~{RESET} (in), 45 DONE-~{PROG} (out), 46 D7-I/O (io), 47 XTL1(OUT)-BCLKIN-I/O (io), 48 D6-I/O (io), 49 D5-I/O (io), 50 ~{CS}0-I/O (io), 51 D4-I/O (io), 52 VCC (power), 53 D3-I/O (io), 54 ~{CS}1-I/O (io), 55 D2-I/O (io), 56 D1-I/O (io), 57 RDY/~{BUSY}-~{RCLK}-I/O (io), 58 DO-DIN-I/O (io), 59 DOUT-I/O (io), 60 CCLK (io), 61 A0-~{WS}-I/O (io), 62 A1-CS2-I/O (io), 63 A2-I/O (io), 64 A3-I/O (io), 65 A15-I/O (io), 66 A4-I/O (io), 67 A14-I/O (io), 68 A5-I/O (io)

## XC3020A-7PC84C
designator U?
Logic Cell Array with 64 CLBs, with 64 I/O Pins, 84-Pin PLCC, Commercial Grade; PackageDocument: ver1.0, Jun-2000; Published: 8-Jun-2000; LatestRevisionDate: 17-Sep-2003; LatestRevisionNote: PCB Footprint dimensions updated; DatasheetDocument: 1994; PackageReference: PC84; Publisher: Altium Limited; Code_JEDEC: MS-047; Code_IPC: PLCC-84
footprint PC84 (84-Pin Plastic Leaded Chip Carrier (PC84))
pins: 1 GND (power), 2 A13-I/O (io), 3 A6-I/O (io), 4 A12-I/O (io), 5 A7-I/O (io), 6 NC, 7 NC, 8 A11-I/O (io), 9 A8-I/O (io), 10 A10-I/O (io), 11 A9-I/O (io), 12 ~{PWRDWN} (in), 13 TCLKIN-I/O (io), 14 NC, 15 I/O (io), 16 I/O (io), 17 I/O (io), 18 I/O (io), 19 I/O (io), 20 I/O (io), 21 I/O (io), 22 VCC (power), 23 I/O (io), 24 I/O (io), 25 I/O (io), 26 I/O (io), 27 I/O (io), 28 I/O (io), 29 I/O (io), 30 I/O (io), 31 M1-~{RDATA} (out), 32 M0-RTRIG (in), 33 M2-I/O (io), 34 HDC-I/O (io), 35 I/O (io), 36 ~{LDC}-I/O (io), 37 I/O (io), 38 NC, 39 I/O (io), 40 I/O (io), 41 NC, 42 ~{INIT}-I/O (io), 43 GND (power), 44 I/O (io), 45 I/O (io), 46 I/O (io), 47 I/O (io), 48 I/O (io), 49 I/O (io), 50 NC, 51 NC, 52 I/O (io), 53 XTL2 (IN)-I/O (io), 54 ~{RESET} (in), 55 DONE-~{PROG} (out), 56 D7-I/O (io), 57 XTL1(OUT)-BCLKIN-I/O (io), 58 D6-I/O (io), 59 I/O (io), 60 D5-I/O (io), 61 ~{CS}0-I/O (io), 62 D4-I/O (io), 63 I/O (io), 64 VCC (power), 65 D3-I/O (io), 66 ~{CS}1-I/O (io), 67 D2-I/O (io), 68 I/O (io), 69 NC, 70 D1-I/O (io), 71 RDY/~{BUSY}-~{RCLK}-I/O (io), 72 DO-DIN-I/O (io), 73 DOUT-I/O (io), 74 CCLK (io), 75 A0-~{WS}-I/O (io), 76 A1-CS2-I/O (io), 77 A2-I/O (io), 78 A3-I/O (io), 79 NC, 80 NC, 81 A15-I/O (io), 82 A4-I/O (io), 83 A14-I/O (io), 84 A5-I/O (io)

## XC3020A-7PC84I
designator U?
Logic Cell Array with 64 CLBs, with 64 I/O Pins, 84-Pin PLCC, Industrial Grade; PackageDocument: ver1.0, Jun-2000; Published: 8-Jun-2000; LatestRevisionDate: 17-Sep-2003; LatestRevisionNote: PCB Footprint dimensions updated; DatasheetDocument: 1994; PackageReference: PC84; Publisher: Altium Limited; Code_JEDEC: MS-047; Code_IPC: PLCC-84
footprint PC84 (84-Pin Plastic Leaded Chip Carrier (PC84))
pins: 1 GND (power), 2 A13-I/O (io), 3 A6-I/O (io), 4 A12-I/O (io), 5 A7-I/O (io), 6 NC, 7 NC, 8 A11-I/O (io), 9 A8-I/O (io), 10 A10-I/O (io), 11 A9-I/O (io), 12 ~{PWRDWN} (in), 13 TCLKIN-I/O (io), 14 NC, 15 I/O (io), 16 I/O (io), 17 I/O (io), 18 I/O (io), 19 I/O (io), 20 I/O (io), 21 I/O (io), 22 VCC (power), 23 I/O (io), 24 I/O (io), 25 I/O (io), 26 I/O (io), 27 I/O (io), 28 I/O (io), 29 I/O (io), 30 I/O (io), 31 M1-~{RDATA} (out), 32 M0-RTRIG (in), 33 M2-I/O (io), 34 HDC-I/O (io), 35 I/O (io), 36 ~{LDC}-I/O (io), 37 I/O (io), 38 NC, 39 I/O (io), 40 I/O (io), 41 NC, 42 ~{INIT}-I/O (io), 43 GND (power), 44 I/O (io), 45 I/O (io), 46 I/O (io), 47 I/O (io), 48 I/O (io), 49 I/O (io), 50 NC, 51 NC, 52 I/O (io), 53 XTL2 (IN)-I/O (io), 54 ~{RESET} (in), 55 DONE-~{PROG} (out), 56 D7-I/O (io), 57 XTL1(OUT)-BCLKIN-I/O (io), 58 D6-I/O (io), 59 I/O (io), 60 D5-I/O (io), 61 ~{CS}0-I/O (io), 62 D4-I/O (io), 63 I/O (io), 64 VCC (power), 65 D3-I/O (io), 66 ~{CS}1-I/O (io), 67 D2-I/O (io), 68 I/O (io), 69 NC, 70 D1-I/O (io), 71 RDY/~{BUSY}-~{RCLK}-I/O (io), 72 DO-DIN-I/O (io), 73 DOUT-I/O (io), 74 CCLK (io), 75 A0-~{WS}-I/O (io), 76 A1-CS2-I/O (io), 77 A2-I/O (io), 78 A3-I/O (io), 79 NC, 80 NC, 81 A15-I/O (io), 82 A4-I/O (io), 83 A14-I/O (io), 84 A5-I/O (io)

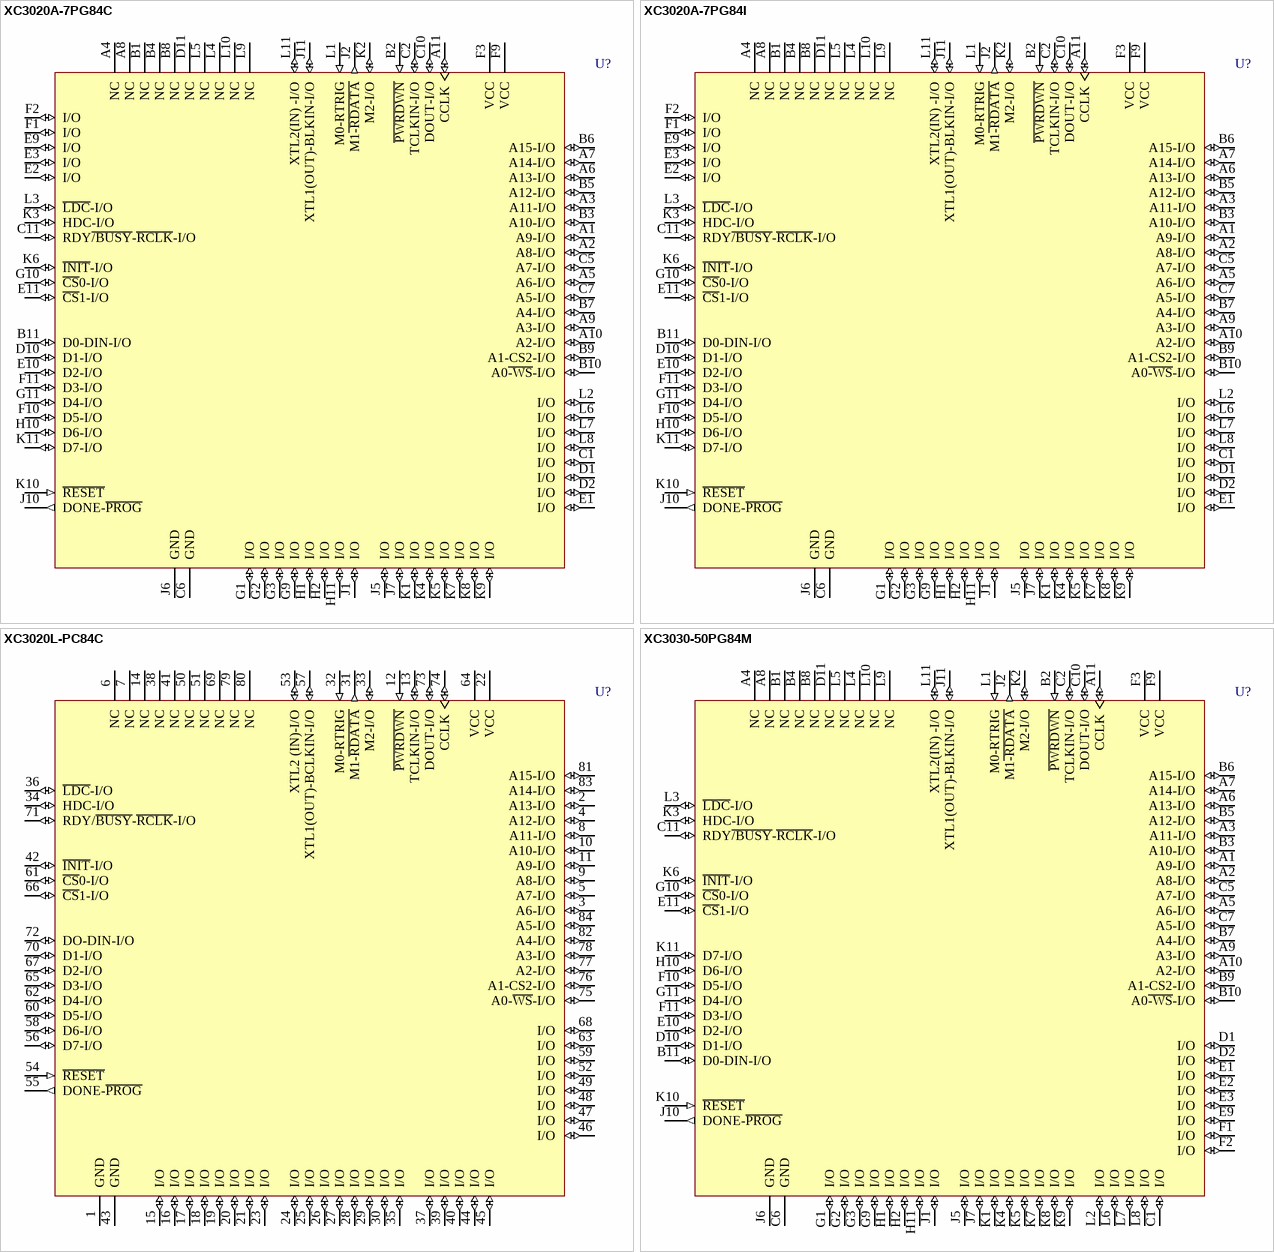
[diagram p11: symbols XC3020A-7PG84C to XC3030-50PG84M]

## XC3020A-7PG84C
designator U?
Logic Cell Array with 64 CLBs, with 64 I/O Pins, 84-Pin PGA, Commercial Grade; PackageDocument: ver1.1, Apr-2001; Published: 8-Jun-2000; LatestRevisionDate: 17-Jul-2002; LatestRevisionNote: Re-released for DXP Platform.; DatasheetDocument: 1994; PackageReference: PG84; Publisher: Altium Limited; Code_JEDEC: MO-066-AC
footprint PG84 (84-Pin Ceramic Pin-Grid Array (PG84))
pins: A1 A9-I/O (io), A2 A8-I/O (io), A3 A11-I/O (io), A4 NC, A5 A6-I/O (io), A6 A13-I/O (io), A7 A14-I/O (io), A8 NC, A9 A3-I/O (io), A10 A2-I/O (io), A11 CCLK (io), B1 NC, B2 ~{PWRDWN} (in), B3 A10-I/O (io), B4 NC, B5 A12-I/O (io), B6 A15-I/O (io), B7 A4-I/O (io), B8 NC, B9 A1-CS2-I/O (io), B10 A0~{-WS}-I/O (io), B11 D0-DIN-I/O (io), C1 I/O (io), C2 TCLKIN-I/O (io), C5 A7-I/O (io), C6 GND (power), C7 A5-I/O (io), C10 DOUT-I/O (io), C11 RDY~{/BUSY}-~{RCLK}-I/O (io), D1 I/O (io), D2 I/O (io), D10 D1-I/O (io), D11 NC, E1 I/O (io), E2 I/O (io), E3 I/O (io), E9 I/O (io), E10 D2-I/O (io), E11 ~{CS}1-I/O (io), F1 I/O (io), F2 I/O (io), F3 VCC (power), F9 VCC (power), F10 D5-I/O (io), F11 D3-I/O (io), G1 I/O (io), G2 I/O (io), G3 I/O (io), G9 I/O (io), G10 ~{CS}0-I/O (io), G11 D4-I/O (io), H1 I/O (io), H2 I/O (io), H10 D6-I/O (io), H11 I/O (io), J1 I/O (io), J2 M1~{-RDATA} (out), J5 I/O (io), J6 GND (power), J7 I/O (io), J10 DONE-~{PROG} (out), J11 XTL1(OUT)-BLKIN-I/O (io), K1 I/O (io), K2 M2-I/O (io), K3 HDC-I/O (io), K4 I/O (io), K5 I/O (io), K6 ~{INIT}-I/O (io), K7 I/O (io), K8 I/O (io), K9 I/O (io), K10 ~{RESET} (in), K11 D7-I/O (io), L1 M0-RTRIG (in), L2 I/O (io), L3 ~{LDC}-I/O (io), L4 NC, L5 NC, L6 I/O (io), L7 I/O (io), L8 I/O (io), L9 NC, L10 NC, L11 XTL2(IN) -I/O (io)

## XC3020A-7PG84I
designator U?
Logic Cell Array with 64 CLBs, with 64 I/O Pins, 84-Pin PGA, Industrial Grade; PackageDocument: ver1.1, Apr-2001; Published: 8-Jun-2000; LatestRevisionDate: 17-Jul-2002; LatestRevisionNote: Re-released for DXP Platform.; DatasheetDocument: 1994; PackageReference: PG84; Publisher: Altium Limited; Code_JEDEC: MO-066-AC
footprint PG84 (84-Pin Ceramic Pin-Grid Array (PG84))
pins: A1 A9-I/O (io), A2 A8-I/O (io), A3 A11-I/O (io), A4 NC, A5 A6-I/O (io), A6 A13-I/O (io), A7 A14-I/O (io), A8 NC, A9 A3-I/O (io), A10 A2-I/O (io), A11 CCLK (io), B1 NC, B2 ~{PWRDWN} (in), B3 A10-I/O (io), B4 NC, B5 A12-I/O (io), B6 A15-I/O (io), B7 A4-I/O (io), B8 NC, B9 A1-CS2-I/O (io), B10 A0~{-WS}-I/O (io), B11 D0-DIN-I/O (io), C1 I/O (io), C2 TCLKIN-I/O (io), C5 A7-I/O (io), C6 GND (power), C7 A5-I/O (io), C10 DOUT-I/O (io), C11 RDY~{/BUSY}-~{RCLK}-I/O (io), D1 I/O (io), D2 I/O (io), D10 D1-I/O (io), D11 NC, E1 I/O (io), E2 I/O (io), E3 I/O (io), E9 I/O (io), E10 D2-I/O (io), E11 ~{CS}1-I/O (io), F1 I/O (io), F2 I/O (io), F3 VCC (power), F9 VCC (power), F10 D5-I/O (io), F11 D3-I/O (io), G1 I/O (io), G2 I/O (io), G3 I/O (io), G9 I/O (io), G10 ~{CS}0-I/O (io), G11 D4-I/O (io), H1 I/O (io), H2 I/O (io), H10 D6-I/O (io), H11 I/O (io), J1 I/O (io), J2 M1~{-RDATA} (out), J5 I/O (io), J6 GND (power), J7 I/O (io), J10 DONE-~{PROG} (out), J11 XTL1(OUT)-BLKIN-I/O (io), K1 I/O (io), K2 M2-I/O (io), K3 HDC-I/O (io), K4 I/O (io), K5 I/O (io), K6 ~{INIT}-I/O (io), K7 I/O (io), K8 I/O (io), K9 I/O (io), K10 ~{RESET} (in), K11 D7-I/O (io), L1 M0-RTRIG (in), L2 I/O (io), L3 ~{LDC}-I/O (io), L4 NC, L5 NC, L6 I/O (io), L7 I/O (io), L8 I/O (io), L9 NC, L10 NC, L11 XTL2(IN) -I/O (io)

## XC3020L-PC84C
designator U?
Logic Cell Array with 64 CLBs, with 64 I/O Pins, 84-Pin PLCC, Commercial Grade; PackageDocument: ver1.0, Jun-2000; Published: 8-Jun-2000; LatestRevisionDate: 17-Sep-2003; LatestRevisionNote: PCB Footprint dimensions updated; DatasheetDocument: 1994; PackageReference: PC84; Publisher: Altium Limited; Code_JEDEC: MS-047; Code_IPC: PLCC-84
footprint PC84 (84-Pin Plastic Leaded Chip Carrier (PC84))
pins: 1 GND (power), 2 A13-I/O (io), 3 A6-I/O (io), 4 A12-I/O (io), 5 A7-I/O (io), 6 NC, 7 NC, 8 A11-I/O (io), 9 A8-I/O (io), 10 A10-I/O (io), 11 A9-I/O (io), 12 ~{PWRDWN} (in), 13 TCLKIN-I/O (io), 14 NC, 15 I/O (io), 16 I/O (io), 17 I/O (io), 18 I/O (io), 19 I/O (io), 20 I/O (io), 21 I/O (io), 22 VCC (power), 23 I/O (io), 24 I/O (io), 25 I/O (io), 26 I/O (io), 27 I/O (io), 28 I/O (io), 29 I/O (io), 30 I/O (io), 31 M1-~{RDATA} (out), 32 M0-RTRIG (in), 33 M2-I/O (io), 34 HDC-I/O (io), 35 I/O (io), 36 ~{LDC}-I/O (io), 37 I/O (io), 38 NC, 39 I/O (io), 40 I/O (io), 41 NC, 42 ~{INIT}-I/O (io), 43 GND (power), 44 I/O (io), 45 I/O (io), 46 I/O (io), 47 I/O (io), 48 I/O (io), 49 I/O (io), 50 NC, 51 NC, 52 I/O (io), 53 XTL2 (IN)-I/O (io), 54 ~{RESET} (in), 55 DONE-~{PROG} (out), 56 D7-I/O (io), 57 XTL1(OUT)-BCLKIN-I/O (io), 58 D6-I/O (io), 59 I/O (io), 60 D5-I/O (io), 61 ~{CS}0-I/O (io), 62 D4-I/O (io), 63 I/O (io), 64 VCC (power), 65 D3-I/O (io), 66 ~{CS}1-I/O (io), 67 D2-I/O (io), 68 I/O (io), 69 NC, 70 D1-I/O (io), 71 RDY/~{BUSY}-~{RCLK}-I/O (io), 72 DO-DIN-I/O (io), 73 DOUT-I/O (io), 74 CCLK (io), 75 A0-~{WS}-I/O (io), 76 A1-CS2-I/O (io), 77 A2-I/O (io), 78 A3-I/O (io), 79 NC, 80 NC, 81 A15-I/O (io), 82 A4-I/O (io), 83 A14-I/O (io), 84 A5-I/O (io)

## XC3030-50PG84M
designator U?
Logic Cell Array with 100 CLBs, with 64 I/O Pins, 84-Pin PGA, Military Grade; PackageDocument: ver1.1, Apr-2001; Published: 8-Jun-2000; LatestRevisionDate: 17-Jul-2002; LatestRevisionNote: Re-released for DXP Platform.; DatasheetDocument: 1994; PackageReference: PG84; Publisher: Altium Limited; Code_JEDEC: MO-066-AC
footprint PG84 (84-Pin Ceramic Pin-Grid Array (PG84))
pins: A1 A9-I/O (io), A2 A8-I/O (io), A3 A11-I/O (io), A4 NC, A5 A6-I/O (io), A6 A13-I/O (io), A7 A14-I/O (io), A8 NC, A9 A3-I/O (io), A10 A2-I/O (io), A11 CCLK (io), B1 NC, B2 ~{PWRDWN} (in), B3 A10-I/O (io), B4 NC, B5 A12-I/O (io), B6 A15-I/O (io), B7 A4-I/O (io), B8 NC, B9 A1-CS2-I/O (io), B10 A0~{-WS}-I/O (io), B11 D0-DIN-I/O (io), C1 I/O (io), C2 TCLKIN-I/O (io), C5 A7-I/O (io), C6 GND (power), C7 A5-I/O (io), C10 DOUT-I/O (io), C11 RDY~{/BUSY}-~{RCLK}-I/O (io), D1 I/O (io), D2 I/O (io), D10 D1-I/O (io), D11 NC, E1 I/O (io), E2 I/O (io), E3 I/O (io), E9 I/O (io), E10 D2-I/O (io), E11 ~{CS}1-I/O (io), F1 I/O (io), F2 I/O (io), F3 VCC (power), F9 VCC (power), F10 D5-I/O (io), F11 D3-I/O (io), G1 I/O (io), G2 I/O (io), G3 I/O (io), G9 I/O (io), G10 ~{CS}0-I/O (io), G11 D4-I/O (io), H1 I/O (io), H2 I/O (io), H10 D6-I/O (io), H11 I/O (io), J1 I/O (io), J2 M1~{-RDATA} (out), J5 I/O (io), J6 GND (power), J7 I/O (io), J10 DONE-~{PROG} (out), J11 XTL1(OUT)-BLKIN-I/O (io), K1 I/O (io), K2 M2-I/O (io), K3 HDC-I/O (io), K4 I/O (io), K5 I/O (io), K6 ~{INIT}-I/O (io), K7 I/O (io), K8 I/O (io), K9 I/O (io), K10 ~{RESET} (in), K11 D7-I/O (io), L1 M0-RTRIG (in), L2 I/O (io), L3 ~{LDC}-I/O (io), L4 NC, L5 NC, L6 I/O (io), L7 I/O (io), L8 I/O (io), L9 NC, L10 NC, L11 XTL2(IN) -I/O (io)

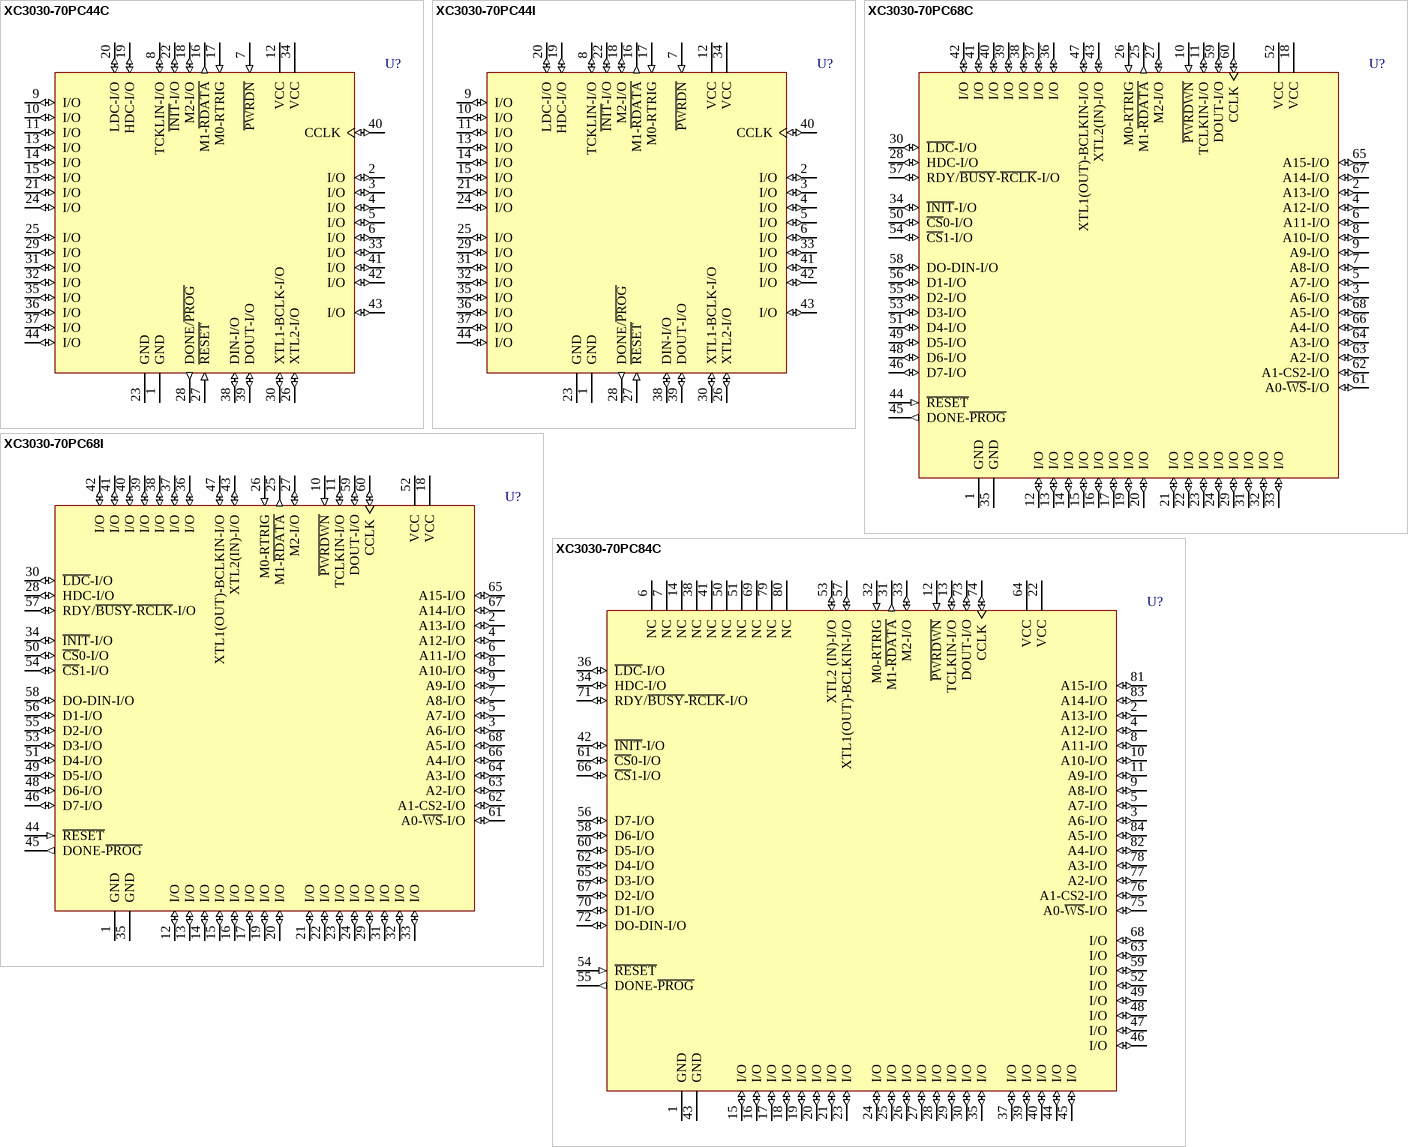
[diagram p12: symbols XC3030-70PC44C to XC3030-70PC84C]

## XC3030-70PC44C
designator U?
Logic Cell Array with 100 CLBs, with 34 I/O Pins, 44-Pin PLCC, Commercial Grade; PackageDocument: ver1.0, Jun-2000; Published: 8-Jun-2000; LatestRevisionDate: 17-Sep-2003; LatestRevisionNote: PCB Footprint dimensions updated; DatasheetDocument: 1994; PackageReference: PC44; Publisher: Altium Limited; Code_JEDEC: MS-047; Code_IPC: PLCC-44
footprint PC44 (44-Pin Plastic Leaded Chip Carrier (PC44))
pins: 1 GND (power), 2 I/O (io), 3 I/O (io), 4 I/O (io), 5 I/O (io), 6 I/O (io), 7 ~{PWRDN} (in), 8 TCKLIN-I/O (io), 9 I/O (io), 10 I/O (io), 11 I/O (io), 12 VCC (power), 13 I/O (io), 14 I/O (io), 15 I/O (io), 16 M1-~{RDATA} (out), 17 M0-RTRIG (in), 18 M2-I/O (io), 19 HDC-I/O (io), 20 LDC-I/O (io), 21 I/O (io), 22 ~{INIT}-I/O (io), 23 GND (power), 24 I/O (io), 25 I/O (io), 26 XTL2-I/O (io), 27 ~{RESET} (in), 28 DONE/~{PROG} (out), 29 I/O (io), 30 XTL1-BCLK-I/O (io), 31 I/O (io), 32 I/O (io), 33 I/O (io), 34 VCC (power), 35 I/O (io), 36 I/O (io), 37 I/O (io), 38 DIN-I/O (io), 39 DOUT-I/O (io), 40 CCLK (io), 41 I/O (io), 42 I/O (io), 43 I/O (io), 44 I/O (io)

## XC3030-70PC44I
designator U?
Logic Cell Array with 100 CLBs, with 34 I/O Pins, 44-Pin PLCC, Industrial Grade; PackageDocument: ver1.0, Jun-2000; Published: 8-Jun-2000; LatestRevisionDate: 17-Sep-2003; LatestRevisionNote: PCB Footprint dimensions updated; DatasheetDocument: 1994; PackageReference: PC44; Publisher: Altium Limited; Code_JEDEC: MS-047; Code_IPC: PLCC-44
footprint PC44 (44-Pin Plastic Leaded Chip Carrier (PC44))
pins: 1 GND (power), 2 I/O (io), 3 I/O (io), 4 I/O (io), 5 I/O (io), 6 I/O (io), 7 ~{PWRDN} (in), 8 TCKLIN-I/O (io), 9 I/O (io), 10 I/O (io), 11 I/O (io), 12 VCC (power), 13 I/O (io), 14 I/O (io), 15 I/O (io), 16 M1-~{RDATA} (out), 17 M0-RTRIG (in), 18 M2-I/O (io), 19 HDC-I/O (io), 20 LDC-I/O (io), 21 I/O (io), 22 ~{INIT}-I/O (io), 23 GND (power), 24 I/O (io), 25 I/O (io), 26 XTL2-I/O (io), 27 ~{RESET} (in), 28 DONE/~{PROG} (out), 29 I/O (io), 30 XTL1-BCLK-I/O (io), 31 I/O (io), 32 I/O (io), 33 I/O (io), 34 VCC (power), 35 I/O (io), 36 I/O (io), 37 I/O (io), 38 DIN-I/O (io), 39 DOUT-I/O (io), 40 CCLK (io), 41 I/O (io), 42 I/O (io), 43 I/O (io), 44 I/O (io)

## XC3030-70PC68C
designator U?
Logic Cell Array with 100 CLBs, with 58 I/O Pins, 68-Pin PLCC, Commercial Grade; PackageDocument: ver1.0, Jun-2000; Published: 8-Jun-2000; LatestRevisionDate: 17-Sep-2003; LatestRevisionNote: PCB Footprint dimensions updated; DatasheetDocument: 1994; PackageReference: PC68; Publisher: Altium Limited; Code_JEDEC: MO-047; Code_IPC: PLCC-68
footprint PC68 (68-Pin Plastic Leaded Chip Carrier (PC68))
pins: 1 GND (power), 2 A13-I/O (io), 3 A6-I/O (io), 4 A12-I/O (io), 5 A7-I/O (io), 6 A11-I/O (io), 7 A8-I/O (io), 8 A10-I/O (io), 9 A9-I/O (io), 10 ~{PWRDWN} (in), 11 TCLKIN-I/O (io), 12 I/O (io), 13 I/O (io), 14 I/O (io), 15 I/O (io), 16 I/O (io), 17 I/O (io), 18 VCC (power), 19 I/O (io), 20 I/O (io), 21 I/O (io), 22 I/O (io), 23 I/O (io), 24 I/O (io), 25 M1-~{RDATA} (out), 26 M0-RTRIG (in), 27 M2-I/O (io), 28 HDC-I/O (io), 29 I/O (io), 30 ~{LDC}-I/O (io), 31 I/O (io), 32 I/O (io), 33 I/O (io), 34 ~{INIT}-I/O (io), 35 GND (power), 36 I/O (io), 37 I/O (io), 38 I/O (io), 39 I/O (io), 40 I/O (io), 41 I/O (io), 42 I/O (io), 43 XTL2(IN)-I/O (io), 44 ~{RESET} (in), 45 DONE-~{PROG} (out), 46 D7-I/O (io), 47 XTL1(OUT)-BCLKIN-I/O (io), 48 D6-I/O (io), 49 D5-I/O (io), 50 ~{CS}0-I/O (io), 51 D4-I/O (io), 52 VCC (power), 53 D3-I/O (io), 54 ~{CS}1-I/O (io), 55 D2-I/O (io), 56 D1-I/O (io), 57 RDY/~{BUSY}-~{RCLK}-I/O (io), 58 DO-DIN-I/O (io), 59 DOUT-I/O (io), 60 CCLK (io), 61 A0-~{WS}-I/O (io), 62 A1-CS2-I/O (io), 63 A2-I/O (io), 64 A3-I/O (io), 65 A15-I/O (io), 66 A4-I/O (io), 67 A14-I/O (io), 68 A5-I/O (io)

## XC3030-70PC68I
designator U?
Logic Cell Array with 100 CLBs, with 58 I/O Pins, 68-Pin PLCC, Industrial Grade; PackageDocument: ver1.0, Jun-2000; Published: 8-Jun-2000; LatestRevisionDate: 17-Sep-2003; LatestRevisionNote: PCB Footprint dimensions updated; DatasheetDocument: 1994; PackageReference: PC68; Publisher: Altium Limited; Code_JEDEC: MO-047; Code_IPC: PLCC-68
footprint PC68 (68-Pin Plastic Leaded Chip Carrier (PC68))
pins: 1 GND (power), 2 A13-I/O (io), 3 A6-I/O (io), 4 A12-I/O (io), 5 A7-I/O (io), 6 A11-I/O (io), 7 A8-I/O (io), 8 A10-I/O (io), 9 A9-I/O (io), 10 ~{PWRDWN} (in), 11 TCLKIN-I/O (io), 12 I/O (io), 13 I/O (io), 14 I/O (io), 15 I/O (io), 16 I/O (io), 17 I/O (io), 18 VCC (power), 19 I/O (io), 20 I/O (io), 21 I/O (io), 22 I/O (io), 23 I/O (io), 24 I/O (io), 25 M1-~{RDATA} (out), 26 M0-RTRIG (in), 27 M2-I/O (io), 28 HDC-I/O (io), 29 I/O (io), 30 ~{LDC}-I/O (io), 31 I/O (io), 32 I/O (io), 33 I/O (io), 34 ~{INIT}-I/O (io), 35 GND (power), 36 I/O (io), 37 I/O (io), 38 I/O (io), 39 I/O (io), 40 I/O (io), 41 I/O (io), 42 I/O (io), 43 XTL2(IN)-I/O (io), 44 ~{RESET} (in), 45 DONE-~{PROG} (out), 46 D7-I/O (io), 47 XTL1(OUT)-BCLKIN-I/O (io), 48 D6-I/O (io), 49 D5-I/O (io), 50 ~{CS}0-I/O (io), 51 D4-I/O (io), 52 VCC (power), 53 D3-I/O (io), 54 ~{CS}1-I/O (io), 55 D2-I/O (io), 56 D1-I/O (io), 57 RDY/~{BUSY}-~{RCLK}-I/O (io), 58 DO-DIN-I/O (io), 59 DOUT-I/O (io), 60 CCLK (io), 61 A0-~{WS}-I/O (io), 62 A1-CS2-I/O (io), 63 A2-I/O (io), 64 A3-I/O (io), 65 A15-I/O (io), 66 A4-I/O (io), 67 A14-I/O (io), 68 A5-I/O (io)

## XC3030-70PC84C
designator U?
Logic Cell Array with 100 CLBs, with 64 I/O Pins, 84-Pin PLCC, Commercial Grade; PackageDocument: ver1.0, Jun-2000; Published: 8-Jun-2000; LatestRevisionDate: 17-Sep-2003; LatestRevisionNote: PCB Footprint dimensions updated; DatasheetDocument: 1994; PackageReference: PC84; Publisher: Altium Limited; Code_JEDEC: MS-047; Code_IPC: PLCC-84
footprint PC84 (84-Pin Plastic Leaded Chip Carrier (PC84))
pins: 1 GND (power), 2 A13-I/O (io), 3 A6-I/O (io), 4 A12-I/O (io), 5 A7-I/O (io), 6 NC, 7 NC, 8 A11-I/O (io), 9 A8-I/O (io), 10 A10-I/O (io), 11 A9-I/O (io), 12 ~{PWRDWN} (in), 13 TCLKIN-I/O (io), 14 NC, 15 I/O (io), 16 I/O (io), 17 I/O (io), 18 I/O (io), 19 I/O (io), 20 I/O (io), 21 I/O (io), 22 VCC (power), 23 I/O (io), 24 I/O (io), 25 I/O (io), 26 I/O (io), 27 I/O (io), 28 I/O (io), 29 I/O (io), 30 I/O (io), 31 M1-~{RDATA} (out), 32 M0-RTRIG (in), 33 M2-I/O (io), 34 HDC-I/O (io), 35 I/O (io), 36 ~{LDC}-I/O (io), 37 I/O (io), 38 NC, 39 I/O (io), 40 I/O (io), 41 NC, 42 ~{INIT}-I/O (io), 43 GND (power), 44 I/O (io), 45 I/O (io), 46 I/O (io), 47 I/O (io), 48 I/O (io), 49 I/O (io), 50 NC, 51 NC, 52 I/O (io), 53 XTL2 (IN)-I/O (io), 54 ~{RESET} (in), 55 DONE-~{PROG} (out), 56 D7-I/O (io), 57 XTL1(OUT)-BCLKIN-I/O (io), 58 D6-I/O (io), 59 I/O (io), 60 D5-I/O (io), 61 ~{CS}0-I/O (io), 62 D4-I/O (io), 63 I/O (io), 64 VCC (power), 65 D3-I/O (io), 66 ~{CS}1-I/O (io), 67 D2-I/O (io), 68 I/O (io), 69 NC, 70 D1-I/O (io), 71 RDY/~{BUSY}-~{RCLK}-I/O (io), 72 DO-DIN-I/O (io), 73 DOUT-I/O (io), 74 CCLK (io), 75 A0-~{WS}-I/O (io), 76 A1-CS2-I/O (io), 77 A2-I/O (io), 78 A3-I/O (io), 79 NC, 80 NC, 81 A15-I/O (io), 82 A4-I/O (io), 83 A14-I/O (io), 84 A5-I/O (io)

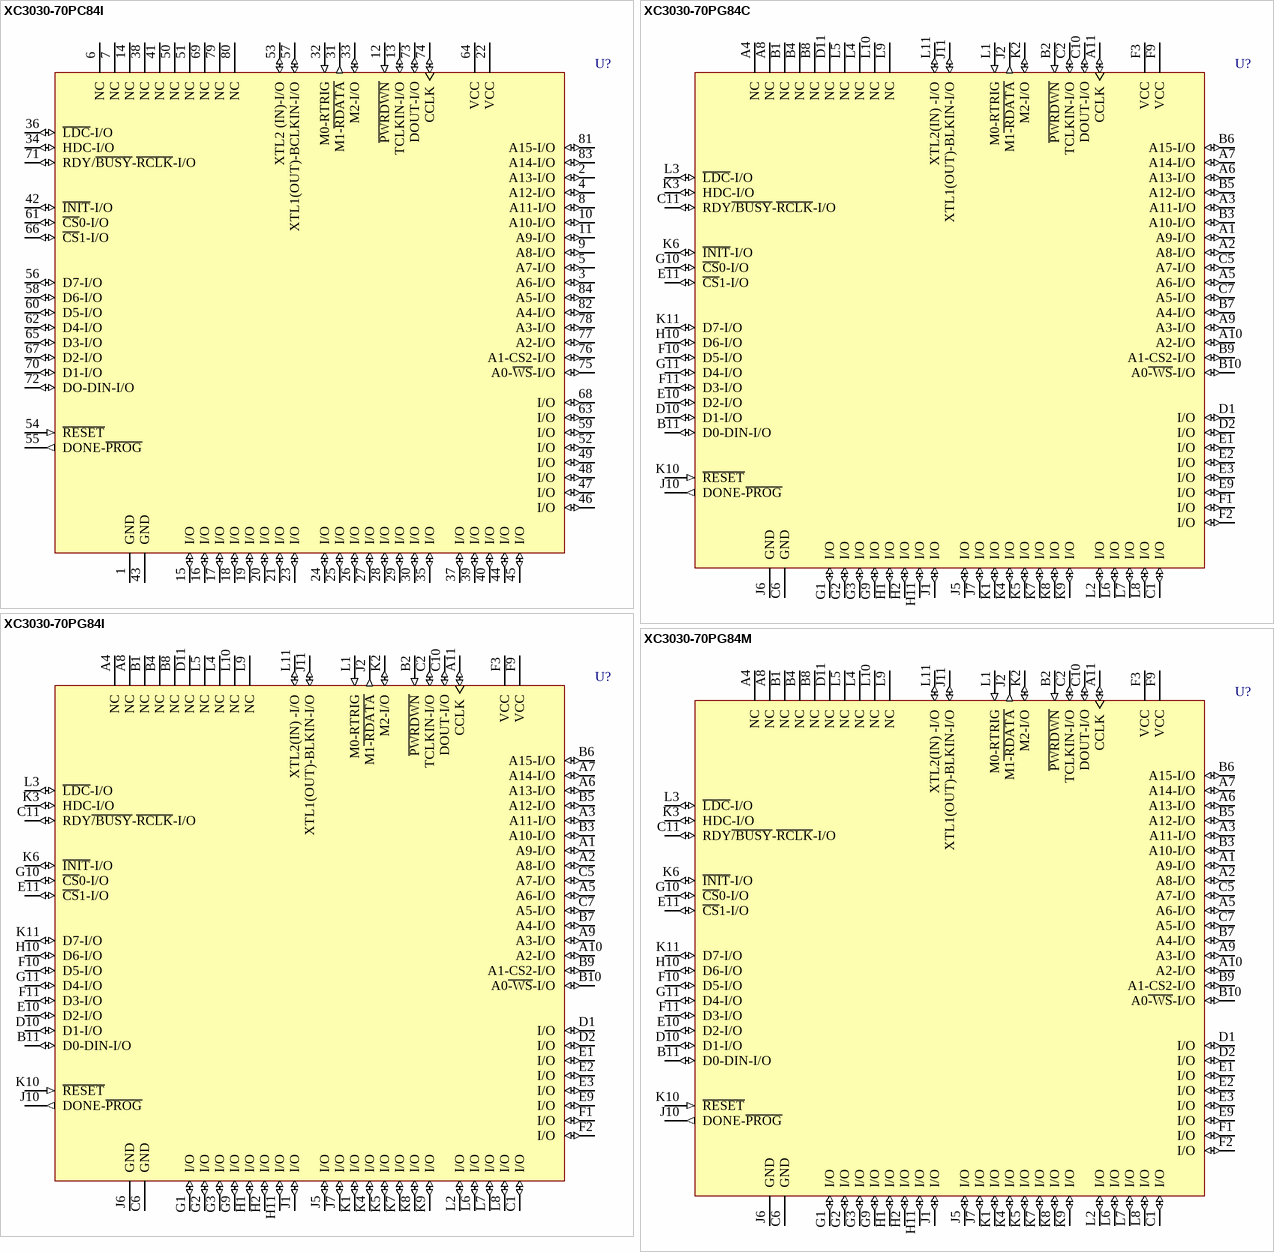
[diagram p13: symbols XC3030-70PC84I to XC3030-70PG84M]

## XC3030-70PC84I
designator U?
Logic Cell Array with 100 CLBs, with 64 I/O Pins, 84-Pin PLCC, Industrial Grade; PackageDocument: ver1.0, Jun-2000; Published: 8-Jun-2000; LatestRevisionDate: 17-Sep-2003; LatestRevisionNote: PCB Footprint dimensions updated; DatasheetDocument: 1994; PackageReference: PC84; Publisher: Altium Limited; Code_JEDEC: MS-047; Code_IPC: PLCC-84
footprint PC84 (84-Pin Plastic Leaded Chip Carrier (PC84))
pins: 1 GND (power), 2 A13-I/O (io), 3 A6-I/O (io), 4 A12-I/O (io), 5 A7-I/O (io), 6 NC, 7 NC, 8 A11-I/O (io), 9 A8-I/O (io), 10 A10-I/O (io), 11 A9-I/O (io), 12 ~{PWRDWN} (in), 13 TCLKIN-I/O (io), 14 NC, 15 I/O (io), 16 I/O (io), 17 I/O (io), 18 I/O (io), 19 I/O (io), 20 I/O (io), 21 I/O (io), 22 VCC (power), 23 I/O (io), 24 I/O (io), 25 I/O (io), 26 I/O (io), 27 I/O (io), 28 I/O (io), 29 I/O (io), 30 I/O (io), 31 M1-~{RDATA} (out), 32 M0-RTRIG (in), 33 M2-I/O (io), 34 HDC-I/O (io), 35 I/O (io), 36 ~{LDC}-I/O (io), 37 I/O (io), 38 NC, 39 I/O (io), 40 I/O (io), 41 NC, 42 ~{INIT}-I/O (io), 43 GND (power), 44 I/O (io), 45 I/O (io), 46 I/O (io), 47 I/O (io), 48 I/O (io), 49 I/O (io), 50 NC, 51 NC, 52 I/O (io), 53 XTL2 (IN)-I/O (io), 54 ~{RESET} (in), 55 DONE-~{PROG} (out), 56 D7-I/O (io), 57 XTL1(OUT)-BCLKIN-I/O (io), 58 D6-I/O (io), 59 I/O (io), 60 D5-I/O (io), 61 ~{CS}0-I/O (io), 62 D4-I/O (io), 63 I/O (io), 64 VCC (power), 65 D3-I/O (io), 66 ~{CS}1-I/O (io), 67 D2-I/O (io), 68 I/O (io), 69 NC, 70 D1-I/O (io), 71 RDY/~{BUSY}-~{RCLK}-I/O (io), 72 DO-DIN-I/O (io), 73 DOUT-I/O (io), 74 CCLK (io), 75 A0-~{WS}-I/O (io), 76 A1-CS2-I/O (io), 77 A2-I/O (io), 78 A3-I/O (io), 79 NC, 80 NC, 81 A15-I/O (io), 82 A4-I/O (io), 83 A14-I/O (io), 84 A5-I/O (io)

## XC3030-70PG84C
designator U?
Logic Cell Array with 100 CLBs, with 64 I/O Pins, 84-Pin PGA, Commercial Grade; PackageDocument: ver1.1, Apr-2001; Published: 8-Jun-2000; LatestRevisionDate: 17-Jul-2002; LatestRevisionNote: Re-released for DXP Platform.; DatasheetDocument: 1994; PackageReference: PG84; Publisher: Altium Limited; Code_JEDEC: MO-066-AC
footprint PG84 (84-Pin Ceramic Pin-Grid Array (PG84))
pins: A1 A9-I/O (io), A2 A8-I/O (io), A3 A11-I/O (io), A4 NC, A5 A6-I/O (io), A6 A13-I/O (io), A7 A14-I/O (io), A8 NC, A9 A3-I/O (io), A10 A2-I/O (io), A11 CCLK (io), B1 NC, B2 ~{PWRDWN} (in), B3 A10-I/O (io), B4 NC, B5 A12-I/O (io), B6 A15-I/O (io), B7 A4-I/O (io), B8 NC, B9 A1-CS2-I/O (io), B10 A0~{-WS}-I/O (io), B11 D0-DIN-I/O (io), C1 I/O (io), C2 TCLKIN-I/O (io), C5 A7-I/O (io), C6 GND (power), C7 A5-I/O (io), C10 DOUT-I/O (io), C11 RDY~{/BUSY}-~{RCLK}-I/O (io), D1 I/O (io), D2 I/O (io), D10 D1-I/O (io), D11 NC, E1 I/O (io), E2 I/O (io), E3 I/O (io), E9 I/O (io), E10 D2-I/O (io), E11 ~{CS}1-I/O (io), F1 I/O (io), F2 I/O (io), F3 VCC (power), F9 VCC (power), F10 D5-I/O (io), F11 D3-I/O (io), G1 I/O (io), G2 I/O (io), G3 I/O (io), G9 I/O (io), G10 ~{CS}0-I/O (io), G11 D4-I/O (io), H1 I/O (io), H2 I/O (io), H10 D6-I/O (io), H11 I/O (io), J1 I/O (io), J2 M1~{-RDATA} (out), J5 I/O (io), J6 GND (power), J7 I/O (io), J10 DONE-~{PROG} (out), J11 XTL1(OUT)-BLKIN-I/O (io), K1 I/O (io), K2 M2-I/O (io), K3 HDC-I/O (io), K4 I/O (io), K5 I/O (io), K6 ~{INIT}-I/O (io), K7 I/O (io), K8 I/O (io), K9 I/O (io), K10 ~{RESET} (in), K11 D7-I/O (io), L1 M0-RTRIG (in), L2 I/O (io), L3 ~{LDC}-I/O (io), L4 NC, L5 NC, L6 I/O (io), L7 I/O (io), L8 I/O (io), L9 NC, L10 NC, L11 XTL2(IN) -I/O (io)

## XC3030-70PG84I
designator U?
Logic Cell Array with 100 CLBs, with 64 I/O Pins, 84-Pin PGA, Industrial Grade; PackageDocument: ver1.1, Apr-2001; Published: 8-Jun-2000; LatestRevisionDate: 17-Jul-2002; LatestRevisionNote: Re-released for DXP Platform.; DatasheetDocument: 1994; PackageReference: PG84; Publisher: Altium Limited; Code_JEDEC: MO-066-AC
footprint PG84 (84-Pin Ceramic Pin-Grid Array (PG84))
pins: A1 A9-I/O (io), A2 A8-I/O (io), A3 A11-I/O (io), A4 NC, A5 A6-I/O (io), A6 A13-I/O (io), A7 A14-I/O (io), A8 NC, A9 A3-I/O (io), A10 A2-I/O (io), A11 CCLK (io), B1 NC, B2 ~{PWRDWN} (in), B3 A10-I/O (io), B4 NC, B5 A12-I/O (io), B6 A15-I/O (io), B7 A4-I/O (io), B8 NC, B9 A1-CS2-I/O (io), B10 A0~{-WS}-I/O (io), B11 D0-DIN-I/O (io), C1 I/O (io), C2 TCLKIN-I/O (io), C5 A7-I/O (io), C6 GND (power), C7 A5-I/O (io), C10 DOUT-I/O (io), C11 RDY~{/BUSY}-~{RCLK}-I/O (io), D1 I/O (io), D2 I/O (io), D10 D1-I/O (io), D11 NC, E1 I/O (io), E2 I/O (io), E3 I/O (io), E9 I/O (io), E10 D2-I/O (io), E11 ~{CS}1-I/O (io), F1 I/O (io), F2 I/O (io), F3 VCC (power), F9 VCC (power), F10 D5-I/O (io), F11 D3-I/O (io), G1 I/O (io), G2 I/O (io), G3 I/O (io), G9 I/O (io), G10 ~{CS}0-I/O (io), G11 D4-I/O (io), H1 I/O (io), H2 I/O (io), H10 D6-I/O (io), H11 I/O (io), J1 I/O (io), J2 M1~{-RDATA} (out), J5 I/O (io), J6 GND (power), J7 I/O (io), J10 DONE-~{PROG} (out), J11 XTL1(OUT)-BLKIN-I/O (io), K1 I/O (io), K2 M2-I/O (io), K3 HDC-I/O (io), K4 I/O (io), K5 I/O (io), K6 ~{INIT}-I/O (io), K7 I/O (io), K8 I/O (io), K9 I/O (io), K10 ~{RESET} (in), K11 D7-I/O (io), L1 M0-RTRIG (in), L2 I/O (io), L3 ~{LDC}-I/O (io), L4 NC, L5 NC, L6 I/O (io), L7 I/O (io), L8 I/O (io), L9 NC, L10 NC, L11 XTL2(IN) -I/O (io)

## XC3030-70PG84M
designator U?
Logic Cell Array with 100 CLBs, with 64 I/O Pins, 84-Pin PGA, Military Grade; PackageDocument: ver1.1, Apr-2001; Published: 8-Jun-2000; LatestRevisionDate: 17-Jul-2002; LatestRevisionNote: Re-released for DXP Platform.; DatasheetDocument: 1994; PackageReference: PG84; Publisher: Altium Limited; Code_JEDEC: MO-066-AC
footprint PG84 (84-Pin Ceramic Pin-Grid Array (PG84))
pins: A1 A9-I/O (io), A2 A8-I/O (io), A3 A11-I/O (io), A4 NC, A5 A6-I/O (io), A6 A13-I/O (io), A7 A14-I/O (io), A8 NC, A9 A3-I/O (io), A10 A2-I/O (io), A11 CCLK (io), B1 NC, B2 ~{PWRDWN} (in), B3 A10-I/O (io), B4 NC, B5 A12-I/O (io), B6 A15-I/O (io), B7 A4-I/O (io), B8 NC, B9 A1-CS2-I/O (io), B10 A0~{-WS}-I/O (io), B11 D0-DIN-I/O (io), C1 I/O (io), C2 TCLKIN-I/O (io), C5 A7-I/O (io), C6 GND (power), C7 A5-I/O (io), C10 DOUT-I/O (io), C11 RDY~{/BUSY}-~{RCLK}-I/O (io), D1 I/O (io), D2 I/O (io), D10 D1-I/O (io), D11 NC, E1 I/O (io), E2 I/O (io), E3 I/O (io), E9 I/O (io), E10 D2-I/O (io), E11 ~{CS}1-I/O (io), F1 I/O (io), F2 I/O (io), F3 VCC (power), F9 VCC (power), F10 D5-I/O (io), F11 D3-I/O (io), G1 I/O (io), G2 I/O (io), G3 I/O (io), G9 I/O (io), G10 ~{CS}0-I/O (io), G11 D4-I/O (io), H1 I/O (io), H2 I/O (io), H10 D6-I/O (io), H11 I/O (io), J1 I/O (io), J2 M1~{-RDATA} (out), J5 I/O (io), J6 GND (power), J7 I/O (io), J10 DONE-~{PROG} (out), J11 XTL1(OUT)-BLKIN-I/O (io), K1 I/O (io), K2 M2-I/O (io), K3 HDC-I/O (io), K4 I/O (io), K5 I/O (io), K6 ~{INIT}-I/O (io), K7 I/O (io), K8 I/O (io), K9 I/O (io), K10 ~{RESET} (in), K11 D7-I/O (io), L1 M0-RTRIG (in), L2 I/O (io), L3 ~{LDC}-I/O (io), L4 NC, L5 NC, L6 I/O (io), L7 I/O (io), L8 I/O (io), L9 NC, L10 NC, L11 XTL2(IN) -I/O (io)

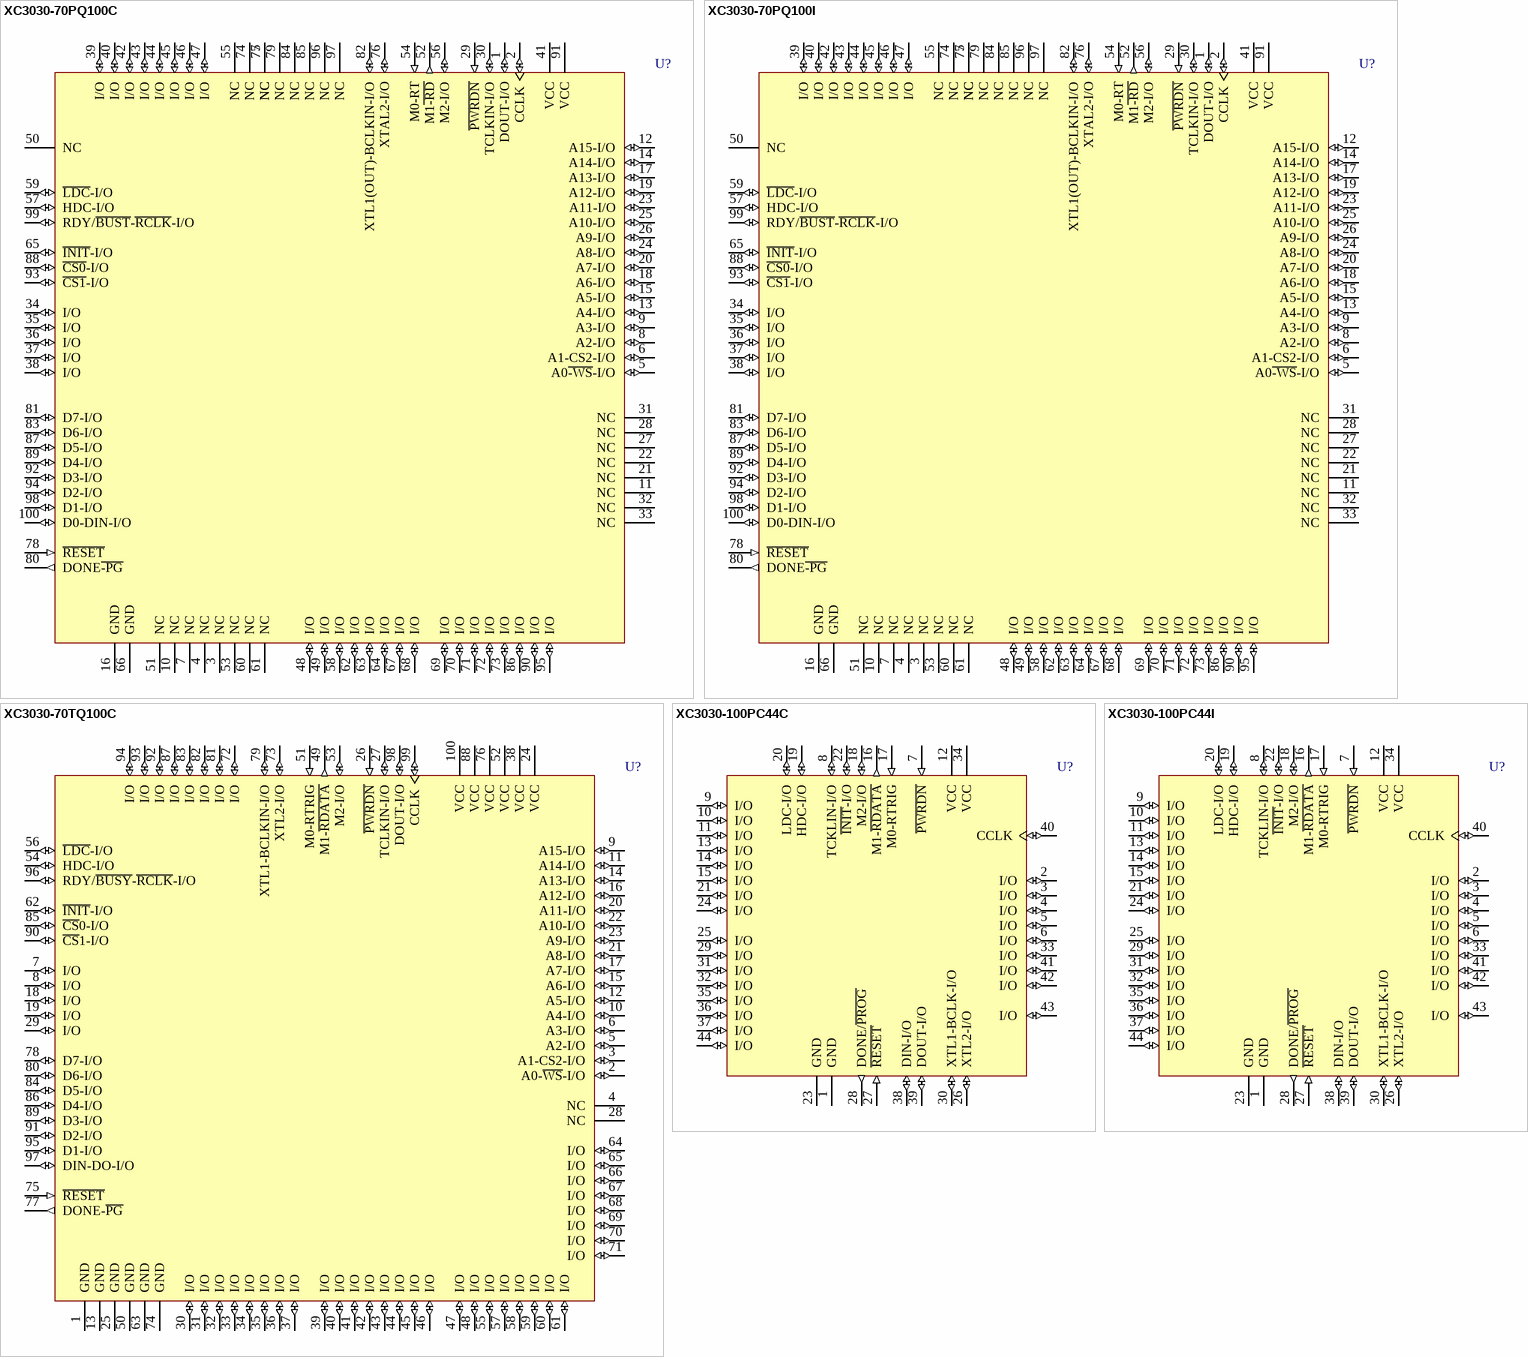
[diagram p14: symbols XC3030-70PQ100C to XC3030-100PC44I]

## XC3030-70PQ100C
designator U?
Logic Cell Array with 100 CLBs, with 64 I/O Pins, 100-Pin PQFP, Commercial Grade; PackageDocument: ver1.2, Oct-2002; Published: 8-Jun-2000; LatestRevisionDate: 17-Sep-2003; LatestRevisionNote: PCB Footprint dimensions updated; DatasheetDocument: 1994; PackageReference: PQ100; Publisher: Altium Limited; Code_IPC: QFP-14X20-100
footprint PQ100 (100-Pin Plastic Quad Flat Pack (PQ100))
pins: 1 DOUT-I/O (io), 2 CCLK (io), 3 NC, 4 NC, 5 A0~{-WS}-I/O (io), 6 A1-CS2-I/O (io), 7 NC, 8 A2-I/O (io), 9 A3-I/O (io), 10 NC, 11 NC, 12 A15-I/O (io), 13 A4-I/O (io), 14 A14-I/O (io), 15 A5-I/O (io), 16 GND (power), 17 A13-I/O (io), 18 A6-I/O (io), 19 A12-I/O (io), 20 A7-I/O (io), 21 NC, 22 NC, 23 A11-I/O (io), 24 A8-I/O (io), 25 A10-I/O (io), 26 A9-I/O (io), 27 NC, 28 NC, 29 ~{PWRDN} (in), 30 TCLKIN-I/O (io), 31 NC, 32 NC, 33 NC, 34 I/O (io), 35 I/O (io), 36 I/O (io), 37 I/O (io), 38 I/O (io), 39 I/O (io), 40 I/O (io), 41 VCC (power), 42 I/O (io), 43 I/O (io), 44 I/O (io), 45 I/O (io), 46 I/O (io), 47 I/O (io), 48 I/O (io), 49 I/O (io), 50 NC, 51 NC, 52 M1~{-RD} (out), 53 NC, 54 M0-RT (in), 55 NC, 56 M2-I/O (io), 57 HDC-I/O (io), 58 I/O (io), 59 ~{LDC}-I/O (io), 60 NC, 61 NC, 62 I/O (io), 63 I/O (io), 64 I/O (io), 65 ~{INIT}-I/O (io), 66 GND (power), 67 I/O (io), 68 I/O (io), 69 I/O (io), 70 I/O (io), 71 I/O (io), 72 I/O (io), 73 I/O (io), 74 NC, 75 NC, 76 XTAL2-I/O (io), 77 NC, 78 ~{RESET} (in), 79 NC, 80 DONE~{-PG} (out), 81 D7-I/O (io), 82 XTL1(OUT)-BCLKIN-I/O (io), 83 D6-I/O (io), 84 NC, 85 NC, 86 I/O (io), 87 D5-I/O (io), 88 ~{CS0}-I/O (io), 89 D4-I/O (io), 90 I/O (io), 91 VCC (power), 92 D3-I/O (io), 93 ~{CS1}-I/O (io), 94 D2-I/O (io), 95 I/O (io), 96 NC, 97 NC, 98 D1-I/O (io), 99 RDY/~{BUST}-~{RCLK}-I/O (io), 100 D0-DIN-I/O (io)

## XC3030-70PQ100I
designator U?
Logic Cell Array with 100 CLBs, with 64 I/O Pins, 100-Pin PQFP, Industrial Grade; PackageDocument: ver1.2, Oct-2002; Published: 8-Jun-2000; LatestRevisionDate: 17-Sep-2003; LatestRevisionNote: PCB Footprint dimensions updated; DatasheetDocument: 1994; PackageReference: PQ100; Publisher: Altium Limited; Code_IPC: QFP-14X20-100
footprint PQ100 (100-Pin Plastic Quad Flat Pack (PQ100))
pins: 1 DOUT-I/O (io), 2 CCLK (io), 3 NC, 4 NC, 5 A0~{-WS}-I/O (io), 6 A1-CS2-I/O (io), 7 NC, 8 A2-I/O (io), 9 A3-I/O (io), 10 NC, 11 NC, 12 A15-I/O (io), 13 A4-I/O (io), 14 A14-I/O (io), 15 A5-I/O (io), 16 GND (power), 17 A13-I/O (io), 18 A6-I/O (io), 19 A12-I/O (io), 20 A7-I/O (io), 21 NC, 22 NC, 23 A11-I/O (io), 24 A8-I/O (io), 25 A10-I/O (io), 26 A9-I/O (io), 27 NC, 28 NC, 29 ~{PWRDN} (in), 30 TCLKIN-I/O (io), 31 NC, 32 NC, 33 NC, 34 I/O (io), 35 I/O (io), 36 I/O (io), 37 I/O (io), 38 I/O (io), 39 I/O (io), 40 I/O (io), 41 VCC (power), 42 I/O (io), 43 I/O (io), 44 I/O (io), 45 I/O (io), 46 I/O (io), 47 I/O (io), 48 I/O (io), 49 I/O (io), 50 NC, 51 NC, 52 M1~{-RD} (out), 53 NC, 54 M0-RT (in), 55 NC, 56 M2-I/O (io), 57 HDC-I/O (io), 58 I/O (io), 59 ~{LDC}-I/O (io), 60 NC, 61 NC, 62 I/O (io), 63 I/O (io), 64 I/O (io), 65 ~{INIT}-I/O (io), 66 GND (power), 67 I/O (io), 68 I/O (io), 69 I/O (io), 70 I/O (io), 71 I/O (io), 72 I/O (io), 73 I/O (io), 74 NC, 75 NC, 76 XTAL2-I/O (io), 77 NC, 78 ~{RESET} (in), 79 NC, 80 DONE~{-PG} (out), 81 D7-I/O (io), 82 XTL1(OUT)-BCLKIN-I/O (io), 83 D6-I/O (io), 84 NC, 85 NC, 86 I/O (io), 87 D5-I/O (io), 88 ~{CS0}-I/O (io), 89 D4-I/O (io), 90 I/O (io), 91 VCC (power), 92 D3-I/O (io), 93 ~{CS1}-I/O (io), 94 D2-I/O (io), 95 I/O (io), 96 NC, 97 NC, 98 D1-I/O (io), 99 RDY/~{BUST}-~{RCLK}-I/O (io), 100 D0-DIN-I/O (io)